# Altium schematic symbol library IC Digital.SchLib: 47 symbols
Pins are listed as number, name and electrical type; pins without a type are passive.

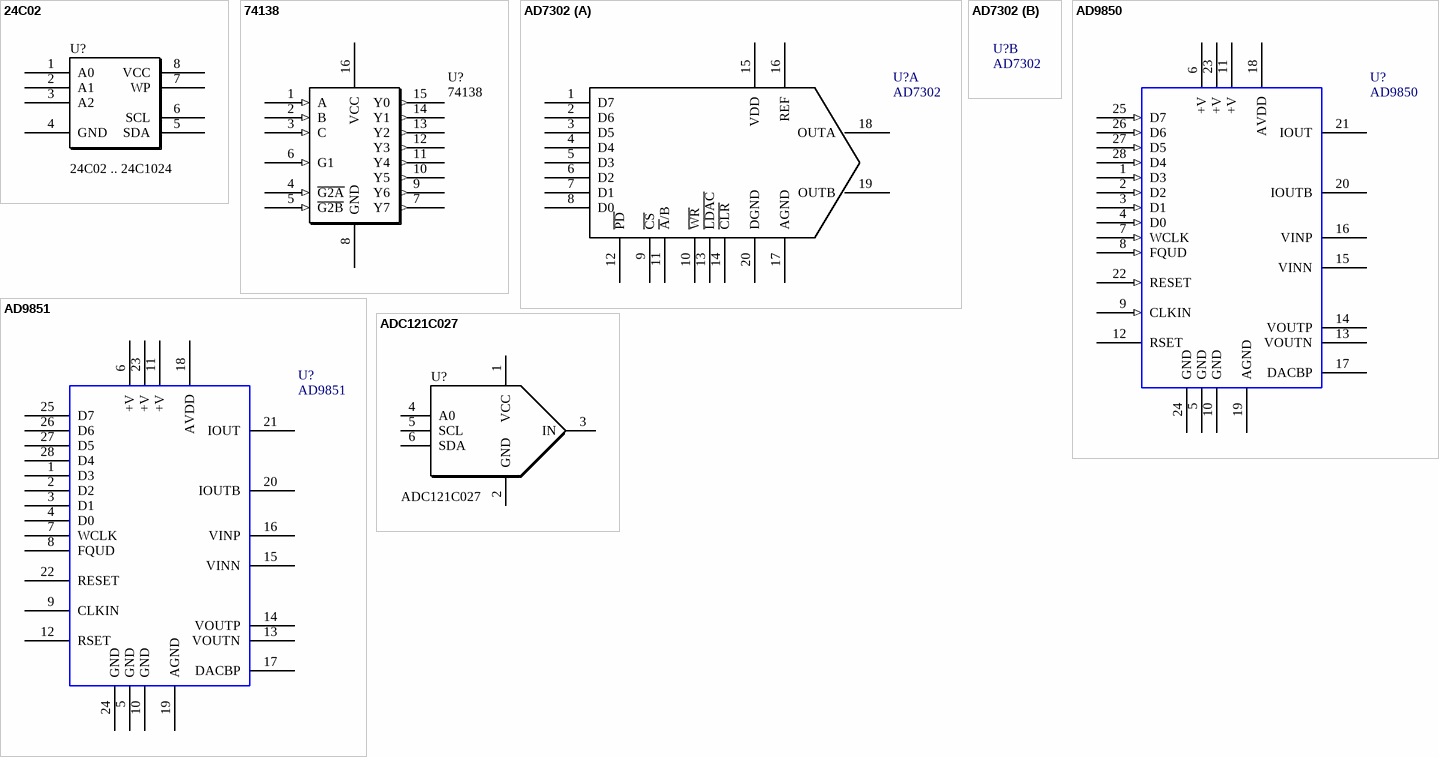
[diagram p0: symbols 24C02 to ADC121C027]

## 24C02
designator U?, comment 24C02 .. 24C1024
footprint SO8
pins: 1 A0, 2 A1, 3 A2, 4 GND, 5 SDA, 6 SCL, 7 WP, 8 VCC

## 74138
designator U?
3-Line to 8-Line Decoders/Demultiplexers
footprint SO16W
footprint SO16
pins: 1 A (in), 2 B (in), 3 C (in), 4 ~{G2A} (in), 5 ~{G2B} (in), 6 G1 (in), 7 Y7 (out), 8 GND (power), 9 Y6 (out), 10 Y5 (out), 11 Y4 (out), 12 Y3 (out), 13 Y2 (out), 14 Y1 (out), 15 Y0 (out), 16 VCC (power)

## AD7302
designator U?
DUAL 8 BIT DAC; Manufacturer: Analog Devices Inc; Manufacturer Part Number: AD7302BRZ; Voltage Supply Source: Single Supply; Power Dissipation (Max): 24.8mW; Number of Converters: 2; Number of Outputs and Type: 2 Voltage, Unipolar; 2 Voltage, Bipolar; Description: IC DAC 8BIT DUAL R-R 20-SOIC; Settling Time: 1.2µs; Data Interface: Parallel; Number of Bits: 8; Supplier 1: Digi-Key; Supplier Part Number 1: AD7302BRZ-ND; Operating Temperature: -40°C ~ 105°C; Category: Integrated Circuits (ICs); Supplier: Digi-Key; Supplier Part Number: AD7302BRZ-ND; RoHS: RoHS Compliant; Package / Case: 20-SOIC (7.5mm Width); Packaging: Tube
footprint SO20
part A pins: 1 D7, 2 D6, 3 D5, 4 D4, 5 D3, 6 D2, 7 D1, 8 D0, 9 ~{CS}, 10 ~{WR}, 11 ~{A}/B, 12 ~{PD}, 13 ~{LDAC}, 14 ~{CLR}, 15 VDD, 16 REF, 17 AGND, 18 OUTA, 19 OUTB, 20 DGND

## AD9850
designator U?
180 MHz DDS SYNTHESIZER; Manufacturer: Analog Devices Inc; Manufacturer Part Number: AD9850BRSZ; Description: IC DDS SYNTHESIZER CMOS 28-SSOP; Voltage - Supply: 3.3V, 5V; Tuning Word Width (Bits): 32 b; Resolution (Bits): 10 b; Master fclk: 125MHz; Supplier 1: Digi-Key; Supplier Part Number 1: AD9850BRSZ-ND; Package / Case: 28-SSOP; RoHS: RoHS Compliant; Packaging: Tube; Supplier Part Number: AD9850BRSZ-ND; Category: Integrated Circuits (ICs); Supplier: Digi-Key; Operating Temperature: -40°C ~ 85°C
footprint TSSOP28
pins: 1 D3 (in), 2 D2 (in), 3 D1 (in), 4 D0 (in), 5 GND (power), 6 +V (power), 7 WCLK (in), 8 FQUD (in), 9 CLKIN (in), 10 GND (power), 11 +V (power), 12 RSET, 13 VOUTN, 14 VOUTP, 15 VINN, 16 VINP, 17 DACBP, 18 AVDD (power), 19 AGND (power), 20 IOUTB, 21 IOUT, 22 RESET (in), 23 +V (power), 24 GND (power), 25 D7 (in), 26 D6 (in), 27 D5 (in), 28 D4 (in)

## AD9851
designator U?
180 MHz DDS SYNTHESIZER; Manufacturer: Analog Devices Inc; Manufacturer Part Number: AD9851BRS; Description: IC DDS DAC W/COMP 180MHZ 28-SSOP; Tuning Word Width (Bits): 32 b; Resolution (Bits): 10 b; Voltage - Supply: 2.7 V ~ 5.25 V; Master fclk: 180MHz; Supplier 1: Digi-Key; Supplier Part Number 1: AD9851BRS-ND; Packaging: Tube; Supplier Part Number: AD9851BRS-ND; Package / Case: 28-SSOP; RoHS: RoHS non-compliant; Supplier: Digi-Key; Operating Temperature: -40°C ~ 85°C; Category: Integrated Circuits (ICs)
footprint TSSOP28
pins: 1 D3, 2 D2, 3 D1, 4 D0, 5 GND, 6 +V, 7 WCLK, 8 FQUD, 9 CLKIN, 10 GND, 11 +V, 12 RSET, 13 VOUTN, 14 VOUTP, 15 VINN, 16 VINP, 17 DACBP, 18 AVDD, 19 AGND, 20 IOUTB, 21 IOUT, 22 RESET, 23 +V, 24 GND, 25 D7, 26 D6, 27 D5, 28 D4

## ADC121C027
designator U?
12 BIT ADC WITH I2C INTERFACE
footprint SOT23-6
pins: 1 VCC, 2 GND, 3 IN, 4 A0, 5 SCL, 6 SDA

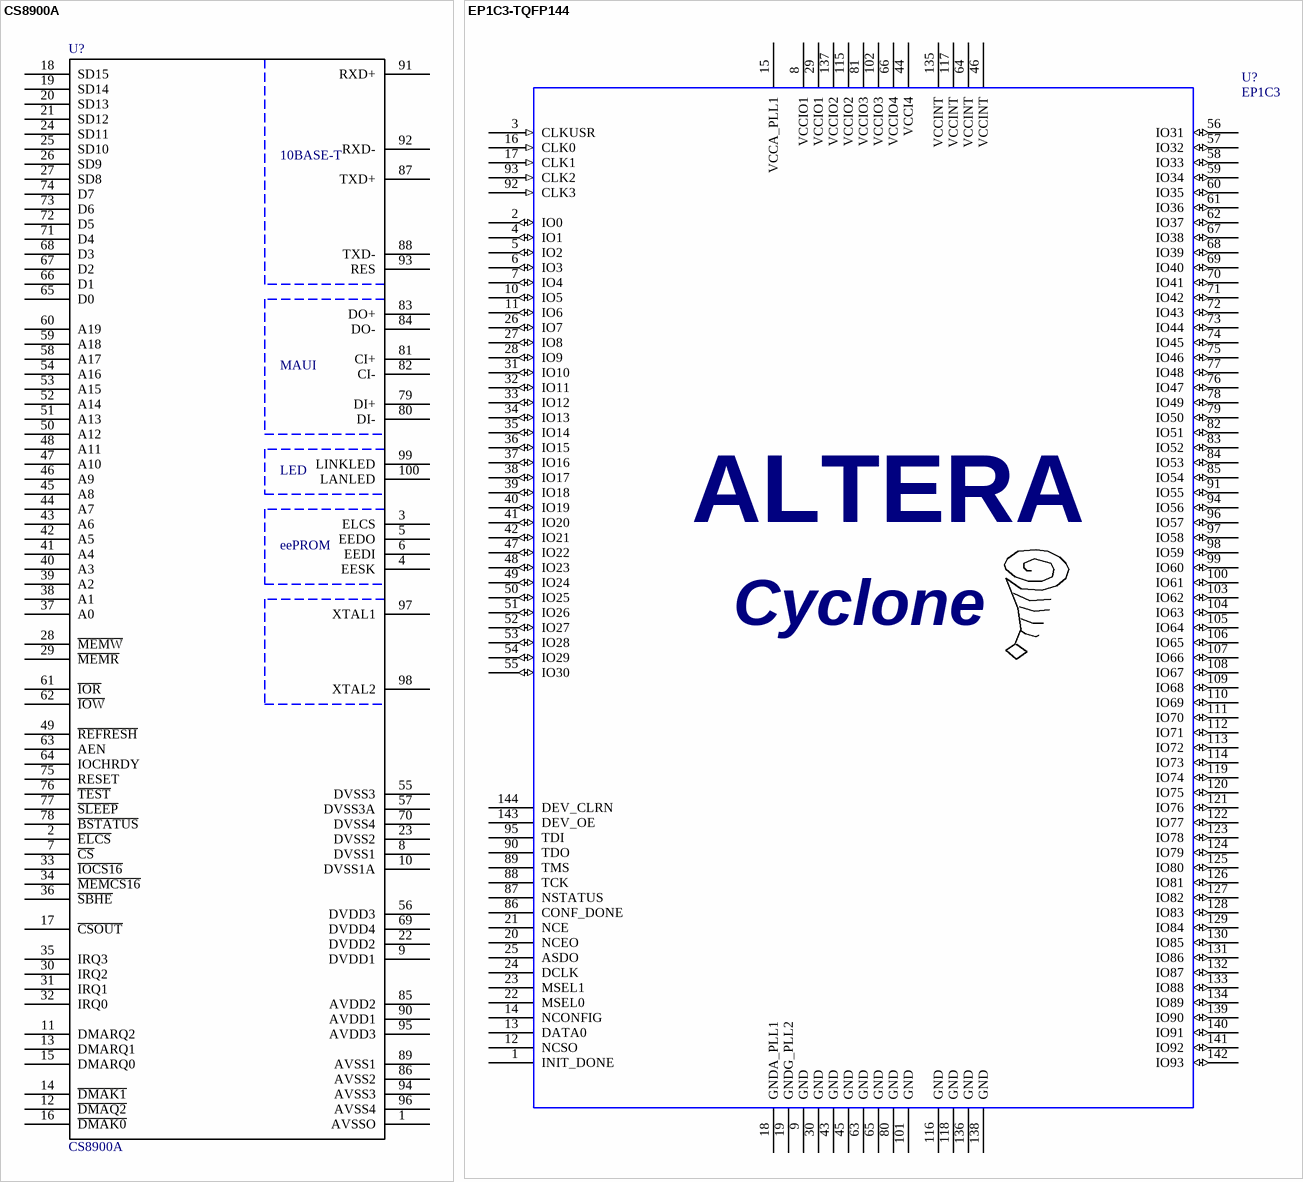
[diagram p1: symbols CS8900A to EP1C3-TQFP144]

## CS8900A
designator U?
ETHERNET MAC + PHY; Manufacturer Part Number: CS8900A-CQZ; Manufacturer: Cirrus Logic Inc; Controller Type: Ethernet Controller (IEEE 802.3); Interface: ISA-BUS; Description: IC LAN ETHERNET CTLR 5V 100LQFP; Voltage - Supply: 3V, 5V; Current - Supply: 95mA; Supplier 1: Digi-Key; Supplier Part Number 1: 598-1128-ND; Operating Temperature: 0°C ~ 70°C; Supplier: Digi-Key; Category: Integrated Circuits (ICs); Packaging: Tube; Package / Case: 100-LQFP; RoHS: RoHS Compliant; Supplier Part Number: 598-1128-ND
footprint tqfp100
pins: 1 AVSSO, 2 ~{ELCS}, 3 ELCS, 4 EESK, 5 EEDO, 6 EEDI, 7 ~{CS}, 8 DVSS1, 9 DVDD1, 10 DVSS1A, 11 DMARQ2, 12 ~{DMAQ2}, 13 DMARQ1, 14 ~{DMAK1}, 15 DMARQ0, 16 ~{DMAK0}, 17 ~{CSOUT}, 18 SD15, 19 SD14, 20 SD13, 21 SD12, 22 DVDD2, 23 DVSS2, 24 SD11, 25 SD10, 26 SD9, 27 SD8, 28 ~{MEMW}, 29 ~{MEMR}, 30 IRQ2, 31 IRQ1, 32 IRQ0, 33 ~{IOCS16}, 34 ~{MEMCS16}, 35 IRQ3, 36 ~{SBHE}, 37 A0, 38 A1, 39 A2, 40 A3, 41 A4, 42 A5, 43 A6, 44 A7, 45 A8, 46 A9, 47 A10, 48 A11, 49 ~{REFRESH}, 50 A12, 51 A13, 52 A14, 53 A15, 54 A16, 55 DVSS3, 56 DVDD3, 57 DVSS3A, 58 A17, 59 A18, 60 A19, 61 ~{IOR}, 62 ~{IOW}, 63 AEN, 64 IOCHRDY, 65 D0, 66 D1, 67 D2, 68 D3, 69 DVDD4, 70 DVSS4, 71 D4, 72 D5, 73 D6, 74 D7, 75 RESET, 76 ~{TEST}, 77 ~{SLEEP}, 78 ~{BSTATUS}, 79 DI+, 80 DI-, 81 CI+, 82 CI-, 83 DO+, 84 DO-, 85 AVDD2, 86 AVSS2, 87 TXD+, 88 TXD-, 89 AVSS1, 90 AVDD1, 91 RXD+, 92 RXD-, 93 RES, 94 AVSS3, 95 AVDD3, 96 AVSS4, 97 XTAL1, 98 XTAL2, 99 LINKLED, 100 LANLED
text: 10BASE-T; MAUI; LED; eePROM

## EP1C3-TQFP144
designator U?, comment EP1C3
ALTERA CYCLONE EP1C3 144 TQFP; Manufacturer Part Number: EP1C3T144C6N; Number of Registers: 2910; Description: IC CYCLONE FPGA 2910 LE 144-TQFP; Number of I /O: 104; Voltage - Supply: 1.4 V ~ 3.6 V; Supplier 1: Digi-Key; Supplier Part Number 1: 544-1662-ND; Operating Temperature: 0°C ~ 85°C; Supplier: Digi-Key; Package / Case: 144-TQFP, 144-VQFP; RoHS: RoHS Compliant; Supplier Part Number: 544-1662-ND; Delay Time: -; Number of Logic Blocks/Elements: 2910; Category: Integrated Circuits (ICs); Number of Gates: -; Manufacturer: Altera
footprint TQFP144
footprint tqfp144
pins: 1 INIT_DONE, 2 IO0 (io), 3 CLKUSR (in), 4 IO1 (io), 5 IO2 (io), 6 IO3 (io), 7 IO4 (io), 8 VCCIO1 (power), 9 GND (power), 10 IO5 (io), 11 IO6 (io), 12 NCSO, 13 DATA0, 14 NCONFIG, 15 VCCA_PLL1 (power), 16 CLK0 (in), 17 CLK1 (in), 18 GNDA_PLL1 (power), 19 GNDG_PLL2 (power), 20 NCEO, 21 NCE, 22 MSEL0, 23 MSEL1, 24 DCLK, 25 ASDO, 26 IO7 (io), 27 IO8 (io), 28 IO9 (io), 29 VCCIO1 (power), 30 GND (power), 31 IO10 (io), 32 IO11 (io), 33 IO12 (io), 34 IO13 (io), 35 IO14 (io), 36 IO15 (io), 37 IO16 (io), 38 IO17 (io), 39 IO18 (io), 40 IO19 (io), 41 IO20 (io), 42 IO21 (io), 43 GND (power), 44 VCCI4 (power), 45 GND (power), 46 VCCINT (power), 47 IO22 (io), 48 IO23 (io), 49 IO24 (io), 50 IO25 (io), 51 IO26 (io), 52 IO27 (io), 53 IO28 (io), 54 IO29 (io), 55 IO30 (io), 56 IO31 (io), 57 IO32 (io), 58 IO33 (io), 59 IO34 (io), 60 IO35 (io), 61 IO36 (io), 62 IO37 (io), 63 GND (power), 64 VCCINT (power), 65 GND (power), 66 VCCIO4 (power), 67 IO38 (io), 68 IO39 (io), 69 IO40 (io), 70 IO41 (io), 71 IO42 (io), 72 IO43 (io), 73 IO44 (io), 74 IO45 (io), 75 IO46 (io), 76 IO47 (io), 77 IO48 (io), 78 IO49 (io), 79 IO50 (io), 80 GND (power), 81 VCCIO3 (power), 82 IO51 (io), 83 IO52 (io), 84 IO53 (io), 85 IO54 (io), 86 CONF_DONE, 87 NSTATUS, 88 TCK, 89 TMS, 90 TDO, 91 IO55 (io), 92 CLK3 (in), 93 CLK2 (in), 94 IO56 (io), 95 TDI, 96 IO57 (io), 97 IO58 (io), 98 IO59 (io), 99 IO60 (io), 100 IO61 (io), 101 GND (power), 102 VCCIO3 (power), 103 IO62 (io), 104 IO63 (io), 105 IO64 (io), 106 IO65 (io), 107 IO66 (io), 108 IO67 (io), 109 IO68 (io), 110 IO69 (io), 111 IO70 (io), 112 IO71 (io), 113 IO72 (io), 114 IO73 (io), 115 VCCIO2 (power), 116 GND (power), 117 VCCINT (power), 118 GND (power), 119 IO74 (io), 120 IO75 (io), 121 IO76 (io), 122 IO77 (io), 123 IO78 (io), 124 IO79 (io), 125 IO80 (io), 126 IO81 (io), 127 IO82 (io), 128 IO83 (io), 129 IO84 (io), 130 IO85 (io), 131 IO86 (io), 132 IO87 (io), 133 IO88 (io), 134 IO89 (io), 135 VCCINT (power), 136 GND (power), 137 VCCIO2 (power), 138 GND (power), 139 IO90 (io), 140 IO91 (io), 141 IO92 (io), 142 IO93 (io), 143 DEV_OE, 144 DEV_CLRN
text: ALTERA; Cyclone

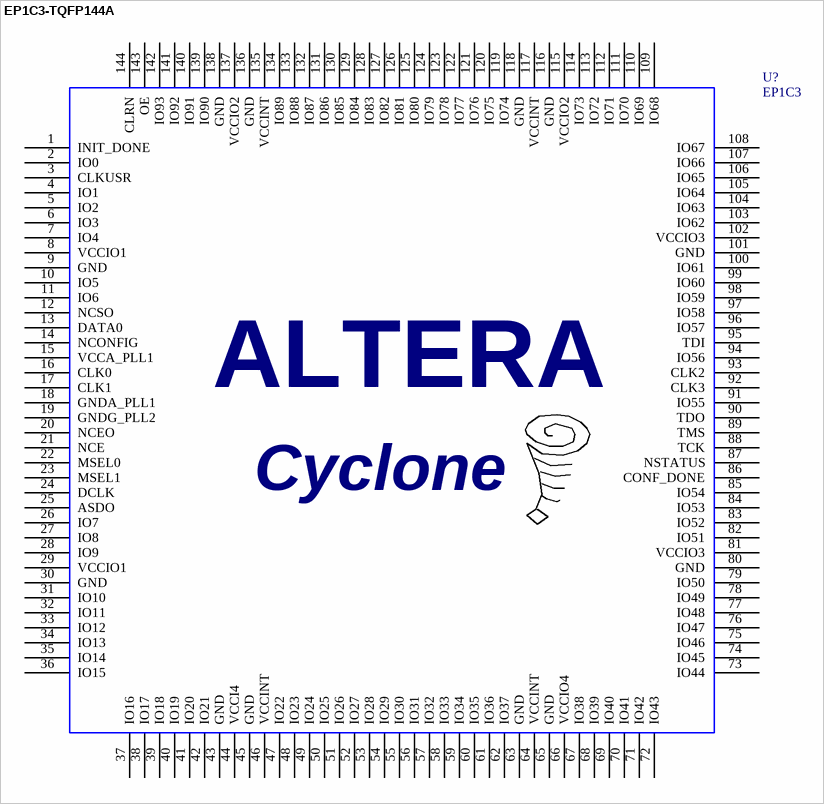
[diagram p2: symbol EP1C3-TQFP144A]

## EP1C3-TQFP144A
designator U?, comment EP1C3
ALTERA CYCLONE EP1C3 144 TQFP; Manufacturer Part Number: EP1C3T144C6N; Number of Registers: 2910; Description: IC CYCLONE FPGA 2910 LE 144-TQFP; Number of I /O: 104; Voltage - Supply: 1.4 V ~ 3.6 V; Supplier 1: Digi-Key; Supplier Part Number 1: 544-1662-ND; Operating Temperature: 0°C ~ 85°C; Supplier: Digi-Key; Package / Case: 144-TQFP, 144-VQFP; RoHS: RoHS Compliant; Supplier Part Number: 544-1662-ND; Delay Time: -; Number of Logic Blocks/Elements: 2910; Category: Integrated Circuits (ICs); Number of Gates: -; Manufacturer: Altera
footprint TQFP144
pins: 1 INIT_DONE, 2 IO0, 3 CLKUSR, 4 IO1, 5 IO2, 6 IO3, 7 IO4, 8 VCCIO1, 9 GND, 10 IO5, 11 IO6, 12 NCSO, 13 DATA0, 14 NCONFIG, 15 VCCA_PLL1, 16 CLK0, 17 CLK1, 18 GNDA_PLL1, 19 GNDG_PLL2, 20 NCEO, 21 NCE, 22 MSEL0, 23 MSEL1, 24 DCLK, 25 ASDO, 26 IO7, 27 IO8, 28 IO9, 29 VCCIO1, 30 GND, 31 IO10, 32 IO11, 33 IO12, 34 IO13, 35 IO14, 36 IO15, 37 IO16, 38 IO17, 39 IO18, 40 IO19, 41 IO20, 42 IO21, 43 GND, 44 VCCI4, 45 GND, 46 VCCINT, 47 IO22, 48 IO23, 49 IO24, 50 IO25, 51 IO26, 52 IO27, 53 IO28, 54 IO29, 55 IO30, 56 IO31, 57 IO32, 58 IO33, 59 IO34, 60 IO35, 61 IO36, 62 IO37, 63 GND, 64 VCCINT, 65 GND, 66 VCCIO4, 67 IO38, 68 IO39, 69 IO40, 70 IO41, 71 IO42, 72 IO43, 73 IO44, 74 IO45, 75 IO46, 76 IO47, 77 IO48, 78 IO49, 79 IO50, 80 GND, 81 VCCIO3, 82 IO51, 83 IO52, 84 IO53, 85 IO54, 86 CONF_DONE, 87 NSTATUS, 88 TCK, 89 TMS, 90 TDO, 91 IO55, 92 CLK3, 93 CLK2, 94 IO56, 95 TDI, 96 IO57, 97 IO58, 98 IO59, 99 IO60, 100 IO61, 101 GND, 102 VCCIO3, 103 IO62, 104 IO63, 105 IO64, 106 IO65, 107 IO66, 108 IO67, 109 IO68, 110 IO69, 111 IO70, 112 IO71, 113 IO72, 114 IO73, 115 VCCIO2, 116 GND, 117 VCCINT, 118 GND, 119 IO74, 120 IO75, 121 IO76, 122 IO77, 123 IO78, 124 IO79, 125 IO80, 126 IO81, 127 IO82, 128 IO83, 129 IO84, 130 IO85, 131 IO86, 132 IO87, 133 IO88, 134 IO89, 135 VCCINT, 136 GND, 137 VCCIO2, 138 GND, 139 IO90, 140 IO91, 141 IO92, 142 IO93, 143 OE, 144 CLRN
text: ALTERA; Cyclone

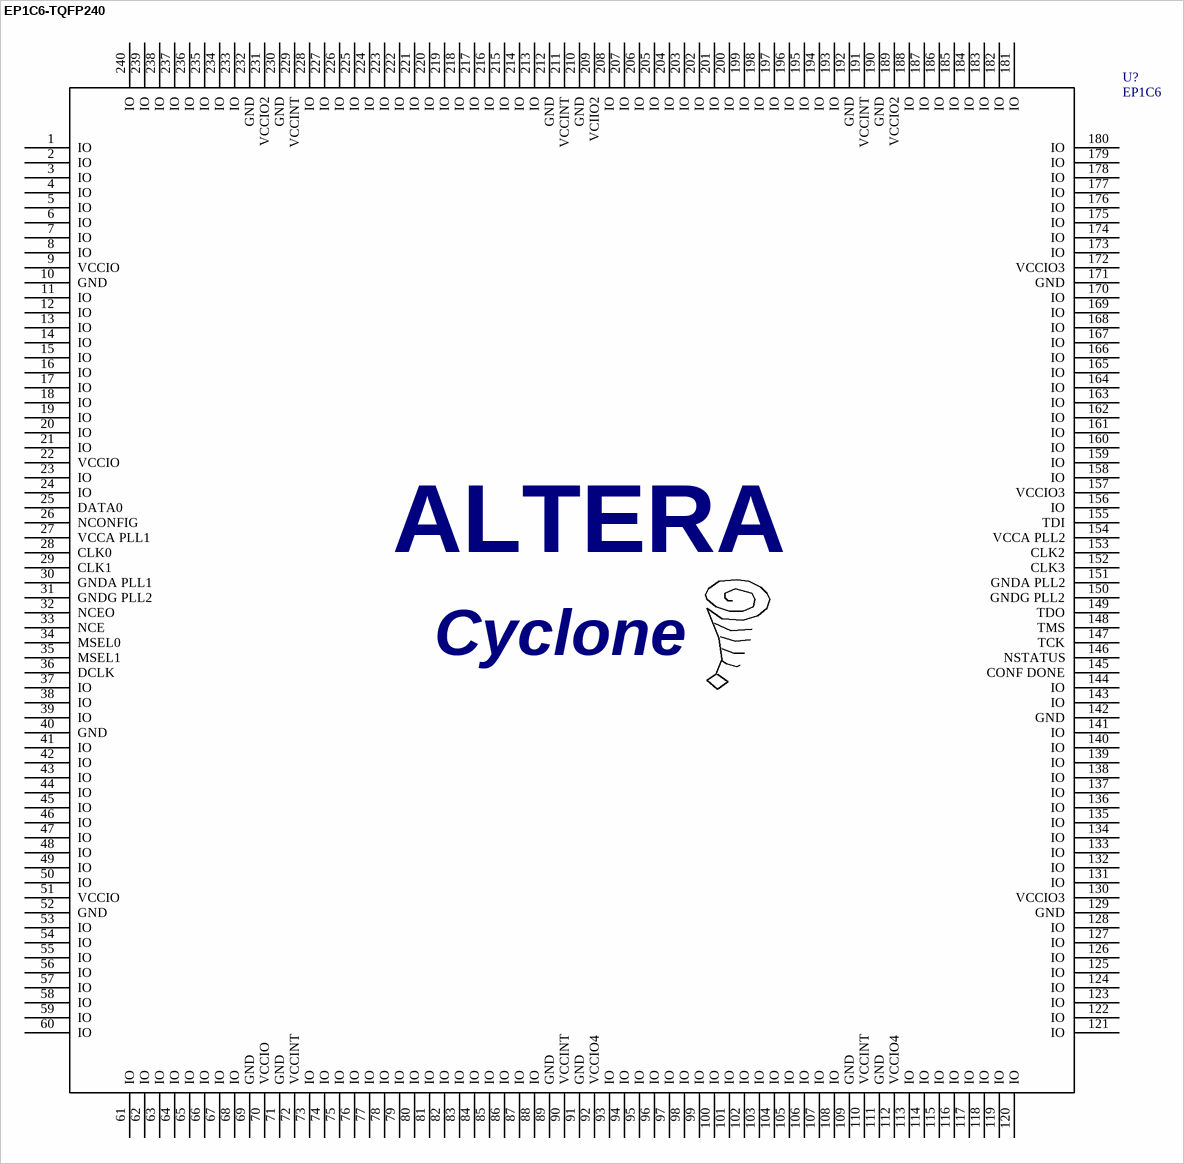
[diagram p3: symbol EP1C6-TQFP240]

## EP1C6-TQFP240
designator U?, comment EP1C6
ALTERA CYCLONE EP1C6 QFP 240; Manufacturer Part Number: EP1C6Q240I7; Description: IC CYCLONE FPGA 5980 LE 240-PQFP; Number of Logic Blocks/Elements: 5980; Number of I /O: 185; Voltage - Supply: 1.4 V ~ 3.6 V; Supplier 1: Digi-Key; Supplier Part Number 1: 544-1086-ND; Package / Case: 240-MQFP, 240-PQFP; Category: Integrated Circuits (ICs); Supplier: Digi-Key; Manufacturer: Altera; Operating Temperature: -40°C ~ 100°C; Number of Registers: 5980; Supplier Part Number: 544-1086-ND; Delay Time: -; Number of Gates: -; RoHS: RoHS non-compliant
footprint QFP240
pins: 1 IO, 2 IO, 3 IO, 4 IO, 5 IO, 6 IO, 7 IO, 8 IO, 9 VCCIO, 10 GND, 11 IO, 12 IO, 13 IO, 14 IO, 15 IO, 16 IO, 17 IO, 18 IO, 19 IO, 20 IO, 21 IO, 22 VCCIO, 23 IO, 24 IO, 25 DATA0, 26 NCONFIG, 27 VCCA PLL1, 28 CLK0, 29 CLK1, 30 GNDA PLL1, 31 GNDG PLL2, 32 NCEO, 33 NCE, 34 MSEL0, 35 MSEL1, 36 DCLK, 37 IO, 38 IO, 39 IO, 40 GND, 41 IO, 42 IO, 43 IO, 44 IO, 45 IO, 46 IO, 47 IO, 48 IO, 49 IO, 50 IO, 51 VCCIO, 52 GND, 53 IO, 54 IO, 55 IO, 56 IO, 57 IO, 58 IO, 59 IO, 60 IO, 61 IO, 62 IO, 63 IO, 64 IO, 65 IO, 66 IO, 67 IO, 68 IO, 69 GND, 70 VCCIO, 71 GND, 72 VCCINT, 73 IO, 74 IO, 75 IO, 76 IO, 77 IO, 78 IO, 79 IO, 80 IO, 81 IO, 82 IO, 83 IO, 84 IO, 85 IO, 86 IO, 87 IO, 88 IO, 89 GND, 90 VCCINT, 91 GND, 92 VCCIO4, 93 IO, 94 IO, 95 IO, 96 IO, 97 IO, 98 IO, 99 IO, 100 IO, 101 IO, 102 IO, 103 IO, 104 IO, 105 IO, 106 IO, 107 IO, 108 IO, 109 GND, 110 VCCINT, 111 GND, 112 VCCIO4, 113 IO, 114 IO, 115 IO, 116 IO, 117 IO, 118 IO, 119 IO, 120 IO, 121 IO, 122 IO, 123 IO, 124 IO, 125 IO, 126 IO, 127 IO, 128 IO, 129 GND, 130 VCCIO3, 131 IO, 132 IO, 133 IO, 134 IO, 135 IO, 136 IO, 137 IO, 138 IO, 139 IO, 140 IO, 141 IO, 142 GND, 143 IO, 144 IO, 145 CONF DONE, 146 NSTATUS, 147 TCK, 148 TMS, 149 TDO, 150 GNDG PLL2, 151 GNDA PLL2, 152 CLK3, 153 CLK2, 154 VCCA PLL2, 155 TDI, 156 IO, 157 VCCIO3, 158 IO, 159 IO, 160 IO, 161 IO, 162 IO, 163 IO, 164 IO, 165 IO, 166 IO, 167 IO, 168 IO, 169 IO, 170 IO, 171 GND, 172 VCCIO3, 173 IO, 174 IO, 175 IO, 176 IO, 177 IO, 178 IO, 179 IO, 180 IO, 181 IO, 182 IO, 183 IO, 184 IO, 185 IO, 186 IO, 187 IO, 188 IO, 189 VCCIO2, 190 GND, 191 VCCINT, 192 GND, 193 IO, 194 IO, 195 IO, 196 IO, 197 IO, 198 IO, 199 IO, 200 IO, 201 IO, 202 IO, 203 IO, 204 IO, 205 IO, 206 IO, 207 IO, 208 IO, 209 VCIIO2, 210 GND, 211 VCCINT, 212 GND, 213 IO, 214 IO, 215 IO, 216 IO, 217 IO, 218 IO, 219 IO, 220 IO, 221 IO, 222 IO, 223 IO, 224 IO, 225 IO, 226 IO, 227 IO, 228 IO, 229 VCCINT, 230 GND, 231 VCCIO2, 232 GND, 233 IO, 234 IO, 235 IO, 236 IO, 237 IO, 238 IO, 239 IO, 240 IO
text: ALTERA; Cyclone

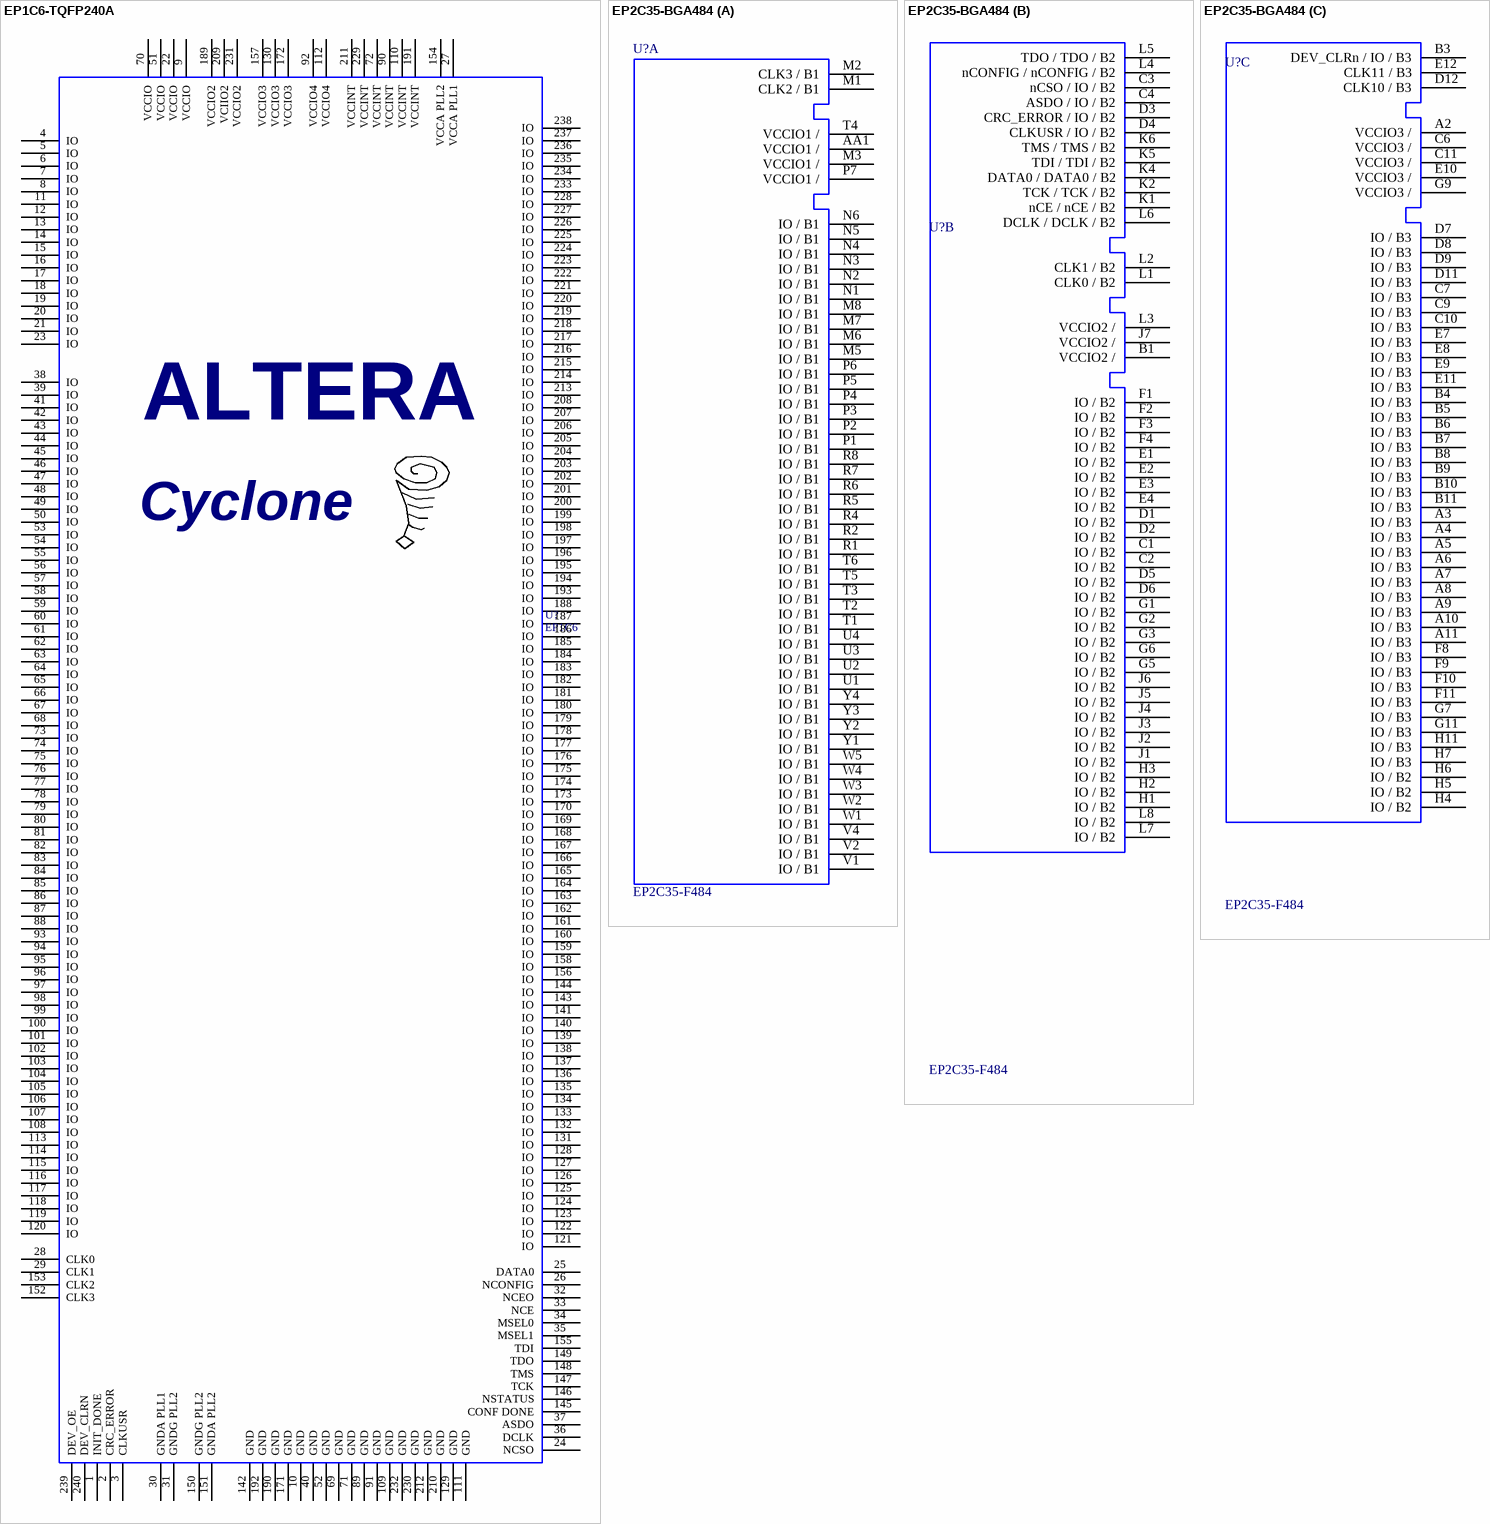
[diagram p4: symbols EP1C6-TQFP240A to EP2C35-BGA484]

## EP1C6-TQFP240A
designator U?, comment EP1C6
ALTERA CYCLONE EP1C6 QFP 240; Manufacturer Part Number: EP1C6Q240I7; Description: IC CYCLONE FPGA 5980 LE 240-PQFP; Number of Logic Blocks/Elements: 5980; Number of I /O: 185; Voltage - Supply: 1.4 V ~ 3.6 V; Supplier 1: Digi-Key; Supplier Part Number 1: 544-1086-ND; Package / Case: 240-MQFP, 240-PQFP; Category: Integrated Circuits (ICs); Supplier: Digi-Key; Manufacturer: Altera; Operating Temperature: -40°C ~ 100°C; Number of Registers: 5980; Supplier Part Number: 544-1086-ND; Delay Time: -; Number of Gates: -; RoHS: RoHS non-compliant
footprint QFP240
pins: 1 INIT_DONE, 2 CRC_ERROR, 3 CLKUSR, 4 IO, 5 IO, 6 IO, 7 IO, 8 IO, 9 VCCIO, 10 GND, 11 IO, 12 IO, 13 IO, 14 IO, 15 IO, 16 IO, 17 IO, 18 IO, 19 IO, 20 IO, 21 IO, 22 VCCIO, 23 IO, 24 NCSO, 25 DATA0, 26 NCONFIG, 27 VCCA PLL1, 28 CLK0, 29 CLK1, 30 GNDA PLL1, 31 GNDG PLL2, 32 NCEO, 33 NCE, 34 MSEL0, 35 MSEL1, 36 DCLK, 37 ASDO, 38 IO, 39 IO, 40 GND, 41 IO, 42 IO, 43 IO, 44 IO, 45 IO, 46 IO, 47 IO, 48 IO, 49 IO, 50 IO, 51 VCCIO, 52 GND, 53 IO, 54 IO, 55 IO, 56 IO, 57 IO, 58 IO, 59 IO, 60 IO, 61 IO, 62 IO, 63 IO, 64 IO, 65 IO, 66 IO, 67 IO, 68 IO, 69 GND, 70 VCCIO, 71 GND, 72 VCCINT, 73 IO, 74 IO, 75 IO, 76 IO, 77 IO, 78 IO, 79 IO, 80 IO, 81 IO, 82 IO, 83 IO, 84 IO, 85 IO, 86 IO, 87 IO, 88 IO, 89 GND, 90 VCCINT, 91 GND, 92 VCCIO4, 93 IO, 94 IO, 95 IO, 96 IO, 97 IO, 98 IO, 99 IO, 100 IO, 101 IO, 102 IO, 103 IO, 104 IO, 105 IO, 106 IO, 107 IO, 108 IO, 109 GND, 110 VCCINT, 111 GND, 112 VCCIO4, 113 IO, 114 IO, 115 IO, 116 IO, 117 IO, 118 IO, 119 IO, 120 IO, 121 IO, 122 IO, 123 IO, 124 IO, 125 IO, 126 IO, 127 IO, 128 IO, 129 GND, 130 VCCIO3, 131 IO, 132 IO, 133 IO, 134 IO, 135 IO, 136 IO, 137 IO, 138 IO, 139 IO, 140 IO, 141 IO, 142 GND, 143 IO, 144 IO, 145 CONF DONE, 146 NSTATUS, 147 TCK, 148 TMS, 149 TDO, 150 GNDG PLL2, 151 GNDA PLL2, 152 CLK3, 153 CLK2, 154 VCCA PLL2, 155 TDI, 156 IO, 157 VCCIO3, 158 IO, 159 IO, 160 IO, 161 IO, 162 IO, 163 IO, 164 IO, 165 IO, 166 IO, 167 IO, 168 IO, 169 IO, 170 IO, 171 GND, 172 VCCIO3, 173 IO, 174 IO, 175 IO, 176 IO, 177 IO, 178 IO, 179 IO, 180 IO, 181 IO, 182 IO, 183 IO, 184 IO, 185 IO, 186 IO, 187 IO, 188 IO, 189 VCCIO2, 190 GND, 191 VCCINT, 192 GND, 193 IO, 194 IO, 195 IO, 196 IO, 197 IO, 198 IO, 199 IO, 200 IO, 201 IO, 202 IO, 203 IO, 204 IO, 205 IO, 206 IO, 207 IO, 208 IO, 209 VCIIO2, 210 GND, 211 VCCINT, 212 GND, 213 IO, 214 IO, 215 IO, 216 IO, 217 IO, 218 IO, 219 IO, 220 IO, 221 IO, 222 IO, 223 IO, 224 IO, 225 IO, 226 IO, 227 IO, 228 IO, 229 VCCINT, 230 GND, 231 VCCIO2, 232 GND, 233 IO, 234 IO, 235 IO, 236 IO, 237 IO, 238 IO, 239 DEV_OE, 240 DEV_CLRN
text: ALTERA; Cyclone

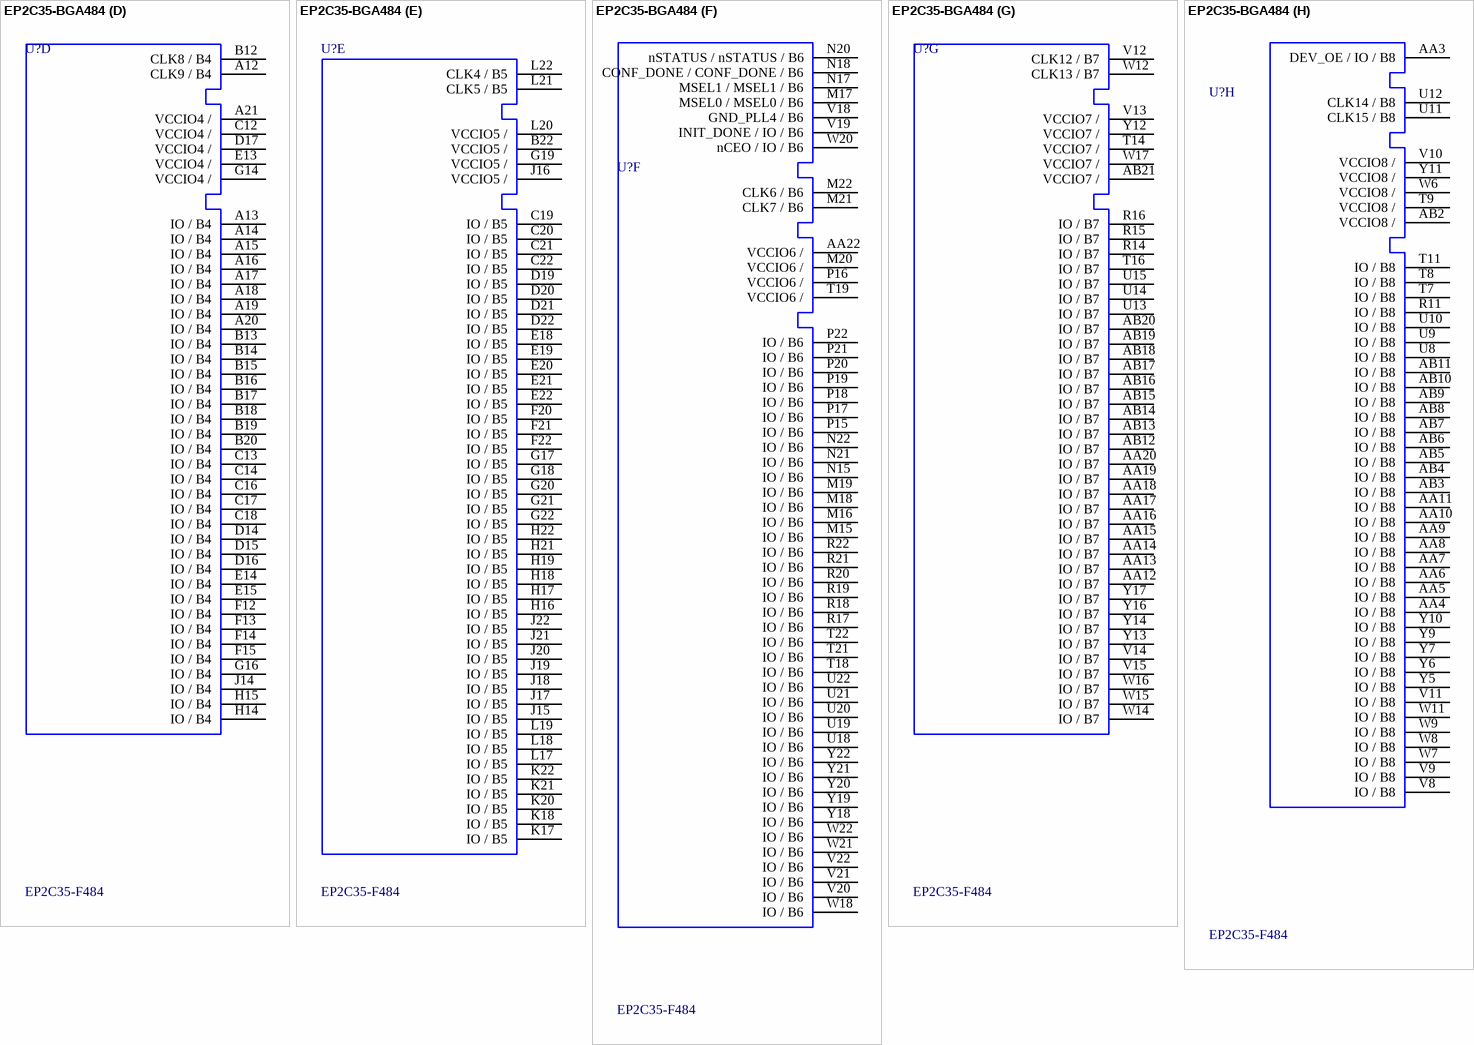
[diagram p5: symbol EP2C35-BGA484]

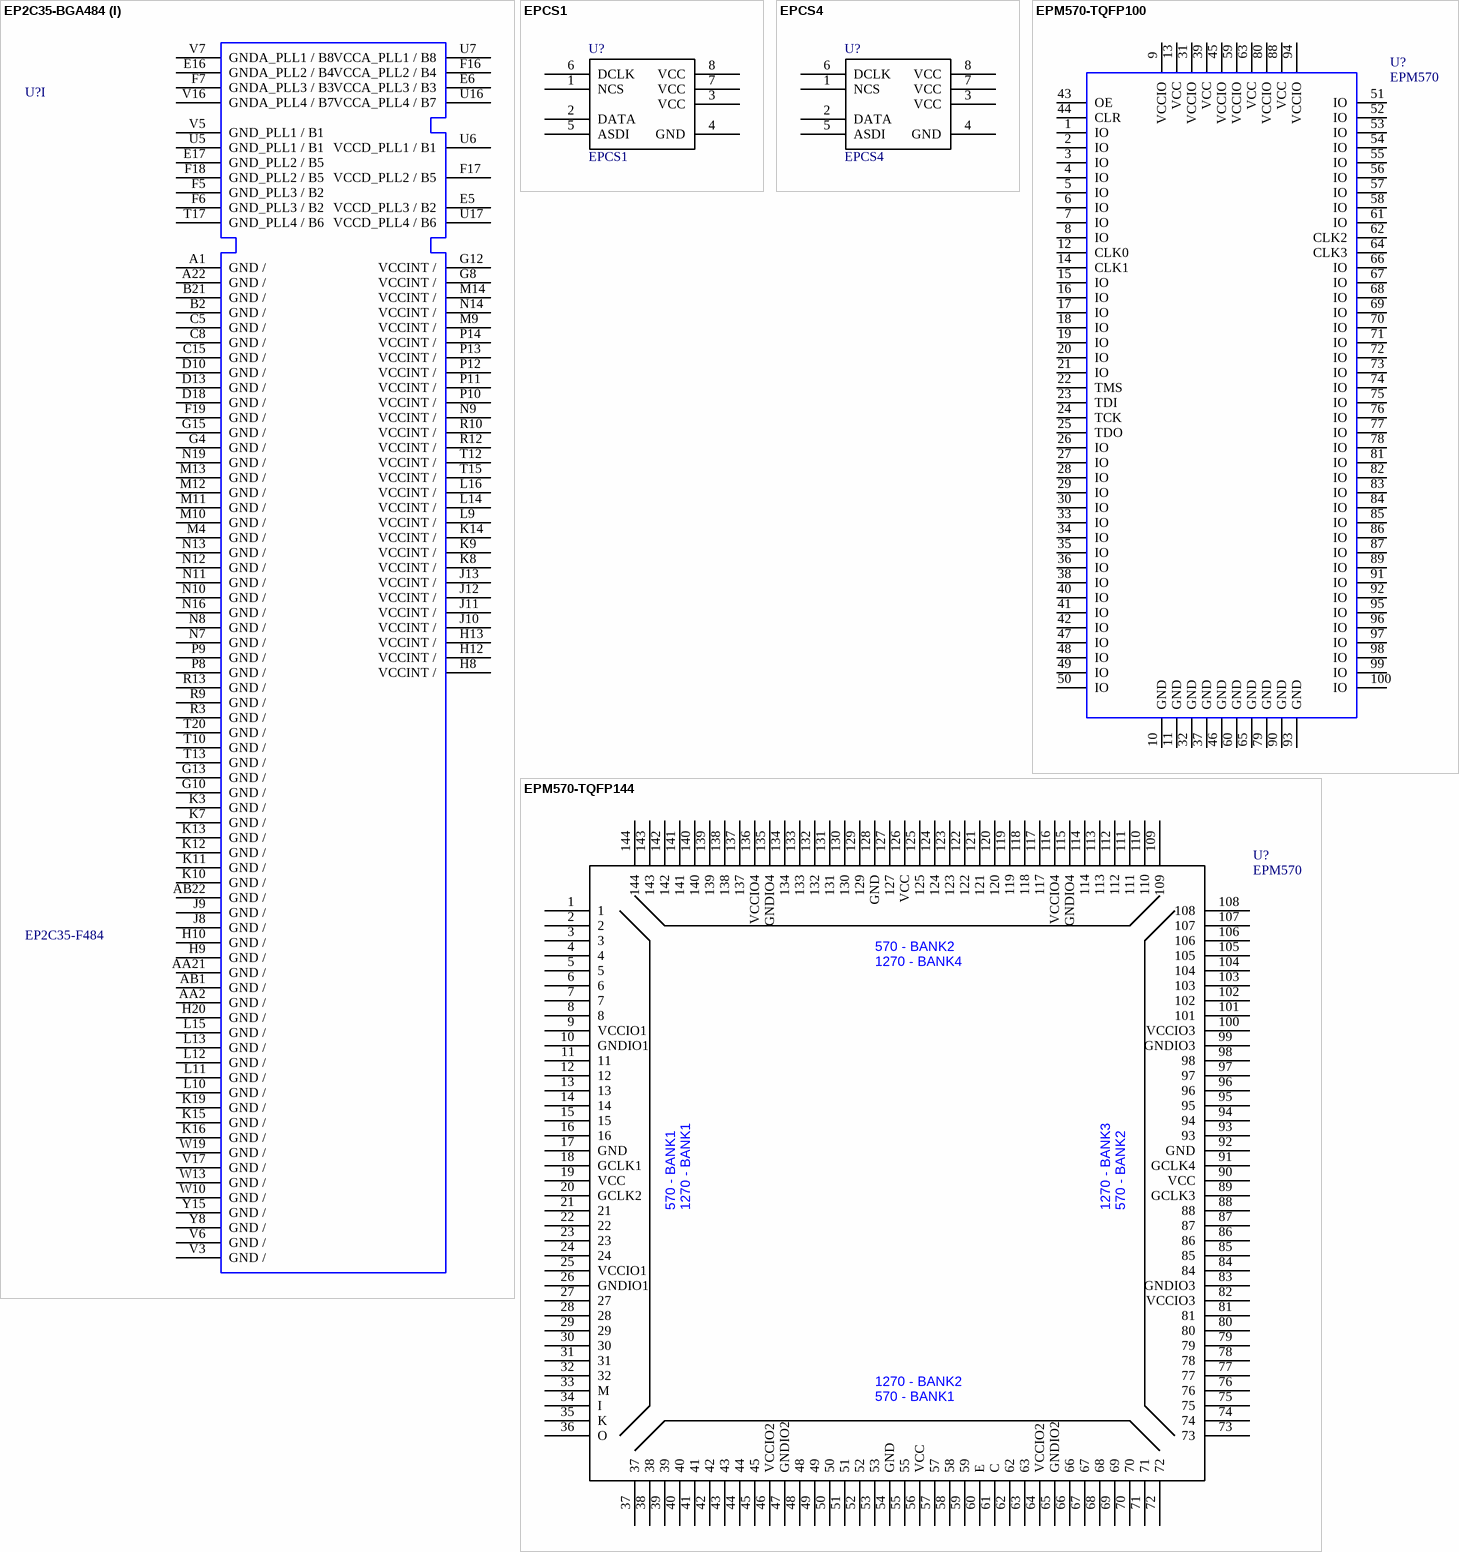
[diagram p6: symbols EP2C35-BGA484 to EPM570-TQFP144]

## EP2C35-BGA484
designator U?, comment EP2C35-F484
ALTERA 2C35 FPGA BGA484 PACKAGE; Manufacturer Part Number: EP2C35F484C8N; Number of I /O: 322; Description: IC CYCLONE II FPGA 35K 484-FBGA; Number of Logic Blocks/Elements: 33216; Voltage - Supply: 1.15 V ~ 3.465 V; Supplier 1: Digi-Key; Supplier Part Number 1: 544-1366-ND; RoHS: RoHS Compliant; Number of Registers: -; Package / Case: 484-FBGA; Number of Gates: -; Category: Integrated Circuits (ICs); Supplier: Digi-Key; Delay Time: -; Operating Temperature: 0°C ~ 85°C; Manufacturer: Altera; Supplier Part Number: 544-1366-ND
footprint BGA484
part A pins: AA1 VCCIO1 /, M1 CLK2 / B1, M2 CLK3 / B1, M3 VCCIO1 /, M5 IO / B1, M6 IO / B1, M7 IO / B1, M8 IO / B1, N1 IO / B1, N2 IO / B1, N3 IO / B1, N4 IO / B1, N5 IO / B1, N6 IO / B1, P1 IO / B1, P2 IO / B1, P3 IO / B1, P4 IO / B1, P5 IO / B1, P6 IO / B1, P7 VCCIO1 /, R1 IO / B1, R2 IO / B1, R4 IO / B1, R5 IO / B1, R6 IO / B1, R7 IO / B1, R8 IO / B1, T1 IO / B1, T2 IO / B1, T3 IO / B1, T4 VCCIO1 /, T5 IO / B1, T6 IO / B1, U1 IO / B1, U2 IO / B1, U3 IO / B1, U4 IO / B1, V1 IO / B1, V2 IO / B1, V4 IO / B1, W1 IO / B1, W2 IO / B1, W3 IO / B1, W4 IO / B1, W5 IO / B1, Y1 IO / B1, Y2 IO / B1, Y3 IO / B1, Y4 IO / B1
part B pins: B1 VCCIO2 /, C1 IO / B2, C2 IO / B2, C3 nCSO / IO / B2, C4 ASDO / IO / B2, D1 IO / B2, D2 IO / B2, D3 CRC_ERROR / IO / B2, D4 CLKUSR / IO / B2, D5 IO / B2, D6 IO / B2, E1 IO / B2, E2 IO / B2, E3 IO / B2, E4 IO / B2, F1 IO / B2, F2 IO / B2, F3 IO / B2, F4 IO / B2, G1 IO / B2, G2 IO / B2, G3 IO / B2, G5 IO / B2, G6 IO / B2, H1 IO / B2, H2 IO / B2, H3 IO / B2, J1 IO / B2, J2 IO / B2, J3 IO / B2, J4 IO / B2, J5 IO / B2, J6 IO / B2, J7 VCCIO2 /, K1 nCE / nCE / B2, K2 TCK / TCK / B2, K4 DATA0 / DATA0 / B2, K5 TDI / TDI / B2, K6 TMS / TMS / B2, L1 CLK0 / B2, L2 CLK1 / B2, L3 VCCIO2 /, L4 nCONFIG / nCONFIG / B2, L5 TDO / TDO / B2, L6 DCLK / DCLK / B2, L7 IO / B2, L8 IO / B2
part C pins: A2 VCCIO3 /, A3 IO / B3, A4 IO / B3, A5 IO / B3, A6 IO / B3, A7 IO / B3, A8 IO / B3, A9 IO / B3, A10 IO / B3, A11 IO / B3, B3 DEV_CLRn / IO / B3, B4 IO / B3, B5 IO / B3, B6 IO / B3, B7 IO / B3, B8 IO / B3, B9 IO / B3, B10 IO / B3, B11 IO / B3, C6 VCCIO3 /, C7 IO / B3, C9 IO / B3, C10 IO / B3, C11 VCCIO3 /, D7 IO / B3, D8 IO / B3, D9 IO / B3, D11 IO / B3, D12 CLK10 / B3, E7 IO / B3, E8 IO / B3, E9 IO / B3, E10 VCCIO3 /, E11 IO / B3, E12 CLK11 / B3, F8 IO / B3, F9 IO / B3, F10 IO / B3, F11 IO / B3, G7 IO / B3, G9 VCCIO3 /, G11 IO / B3, H4 IO / B2, H5 IO / B2, H6 IO / B2, H7 IO / B3, H11 IO / B3
part D pins: A12 CLK9 / B4, A13 IO / B4, A14 IO / B4, A15 IO / B4, A16 IO / B4, A17 IO / B4, A18 IO / B4, A19 IO / B4, A20 IO / B4, A21 VCCIO4 /, B12 CLK8 / B4, B13 IO / B4, B14 IO / B4, B15 IO / B4, B16 IO / B4, B17 IO / B4, B18 IO / B4, B19 IO / B4, B20 IO / B4, C12 VCCIO4 /, C13 IO / B4, C14 IO / B4, C16 IO / B4, C17 IO / B4, C18 IO / B4, D14 IO / B4, D15 IO / B4, D16 IO / B4, D17 VCCIO4 /, E13 VCCIO4 /, E14 IO / B4, E15 IO / B4, F12 IO / B4, F13 IO / B4, F14 IO / B4, F15 IO / B4, G14 VCCIO4 /, G16 IO / B4, H14 IO / B4, H15 IO / B4, J14 IO / B4
part E pins: B22 VCCIO5 /, C19 IO / B5, C20 IO / B5, C21 IO / B5, C22 IO / B5, D19 IO / B5, D20 IO / B5, D21 IO / B5, D22 IO / B5, E18 IO / B5, E19 IO / B5, E20 IO / B5, E21 IO / B5, E22 IO / B5, F20 IO / B5, F21 IO / B5, F22 IO / B5, G17 IO / B5, G18 IO / B5, G19 VCCIO5 /, G20 IO / B5, G21 IO / B5, G22 IO / B5, H16 IO / B5, H17 IO / B5, H18 IO / B5, H19 IO / B5, H21 IO / B5, H22 IO / B5, J15 IO / B5, J16 VCCIO5 /, J17 IO / B5, J18 IO / B5, J19 IO / B5, J20 IO / B5, J21 IO / B5, J22 IO / B5, K17 IO / B5, K18 IO / B5, K20 IO / B5, K21 IO / B5, K22 IO / B5, L17 IO / B5, L18 IO / B5, L19 IO / B5, L20 VCCIO5 /, L21 CLK5 / B5, L22 CLK4 / B5
part F pins: AA22 VCCIO6 /, M15 IO / B6, M16 IO / B6, M17 MSEL0 / MSEL0 / B6, M18 IO / B6, M19 IO / B6, M20 VCCIO6 /, M21 CLK7 / B6, M22 CLK6 / B6, N15 IO / B6, N17 MSEL1 / MSEL1 / B6, N18 CONF_DONE / CONF_DONE / B6, N20 nSTATUS / nSTATUS / B6, N21 IO / B6, N22 IO / B6, P15 IO / B6, P16 VCCIO6 /, P17 IO / B6, P18 IO / B6, P19 IO / B6, P20 IO / B6, P21 IO / B6, P22 IO / B6, R17 IO / B6, R18 IO / B6, R19 IO / B6, R20 IO / B6, R21 IO / B6, R22 IO / B6, T18 IO / B6, T19 VCCIO6 /, T21 IO / B6, T22 IO / B6, U18 IO / B6, U19 IO / B6, U20 IO / B6, U21 IO / B6, U22 IO / B6, V18 GND_PLL4 / B6, V19 INIT_DONE / IO / B6, V20 IO / B6, V21 IO / B6, V22 IO / B6, W18 IO / B6, W20 nCEO / IO / B6, W21 IO / B6, W22 IO / B6, Y18 IO / B6, Y19 IO / B6, Y20 IO / B6, Y21 IO / B6, Y22 IO / B6
part G pins: AA12 IO / B7, AA13 IO / B7, AA14 IO / B7, AA15 IO / B7, AA16 IO / B7, AA17 IO / B7, AA18 IO / B7, AA19 IO / B7, AA20 IO / B7, AB12 IO / B7, AB13 IO / B7, AB14 IO / B7, AB15 IO / B7, AB16 IO / B7, AB17 IO / B7, AB18 IO / B7, AB19 IO / B7, AB20 IO / B7, AB21 VCCIO7 /, R14 IO / B7, R15 IO / B7, R16 IO / B7, T14 VCCIO7 /, T16 IO / B7, U13 IO / B7, U14 IO / B7, U15 IO / B7, V12 CLK12 / B7, V13 VCCIO7 /, V14 IO / B7, V15 IO / B7, W12 CLK13 / B7, W14 IO / B7, W15 IO / B7, W16 IO / B7, W17 VCCIO7 /, Y12 VCCIO7 /, Y13 IO / B7, Y14 IO / B7, Y16 IO / B7, Y17 IO / B7
part H pins: AA3 DEV_OE / IO / B8, AA4 IO / B8, AA5 IO / B8, AA6 IO / B8, AA7 IO / B8, AA8 IO / B8, AA9 IO / B8, AA10 IO / B8, AA11 IO / B8, AB2 VCCIO8 /, AB3 IO / B8, AB4 IO / B8, AB5 IO / B8, AB6 IO / B8, AB7 IO / B8, AB8 IO / B8, AB9 IO / B8, AB10 IO / B8, AB11 IO / B8, R11 IO / B8, T7 IO / B8, T8 IO / B8, T9 VCCIO8 /, T11 IO / B8, U8 IO / B8, U9 IO / B8, U10 IO / B8, U11 CLK15 / B8, U12 CLK14 / B8, V8 IO / B8, V9 IO / B8, V10 VCCIO8 /, V11 IO / B8, W6 VCCIO8 /, W7 IO / B8, W8 IO / B8, W9 IO / B8, W11 IO / B8, Y5 IO / B8, Y6 IO / B8, Y7 IO / B8, Y9 IO / B8, Y10 IO / B8, Y11 VCCIO8 /
part I pins: A1 GND /, A22 GND /, AA2 GND /, AA21 GND /, AB1 GND /, AB22 GND /, B2 GND /, B21 GND /, C5 GND /, C8 GND /, C15 GND /, D10 GND /, D13 GND /, D18 GND /, E5 VCCD_PLL3 / B2, E6 VCCA_PLL3 / B3, E16 GNDA_PLL2 / B4, E17 GND_PLL2 / B5, F5 GND_PLL3 / B2, F6 GND_PLL3 / B2, F7 GNDA_PLL3 / B3, F16 VCCA_PLL2 / B4, F17 VCCD_PLL2 / B5, F18 GND_PLL2 / B5, F19 GND /, G4 GND /, G8 VCCINT /, G10 GND /, G12 VCCINT /, G13 GND /, G15 GND /, H8 VCCINT /, H9 GND /, H10 GND /, H12 VCCINT /, H13 VCCINT /, H20 GND /, J8 GND /, J9 GND /, J10 VCCINT /, J11 VCCINT /, J12 VCCINT /, J13 VCCINT /, K3 GND /, K7 GND /, K8 VCCINT /, K9 VCCINT /, K10 GND /, K11 GND /, K12 GND /, K13 GND /, K14 VCCINT /, K15 GND /, K16 GND /, K19 GND /, L9 VCCINT /, L10 GND /, L11 GND /, L12 GND /, L13 GND /, L14 VCCINT /, L15 GND /, L16 VCCINT /, M4 GND /, M9 VCCINT /, M10 GND /, M11 GND /, M12 GND /, M13 GND /, M14 VCCINT /, N7 GND /, N8 GND /, N9 VCCINT /, N10 GND /, N11 GND /, N12 GND /, N13 GND /, N14 VCCINT /, N16 GND /, N19 GND /, P8 GND /, P9 GND /, P10 VCCINT /, P11 VCCINT /, P12 VCCINT /, P13 VCCINT /, P14 VCCINT /, R3 GND /, R9 GND /, R10 VCCINT /, R12 VCCINT /, R13 GND /, T10 GND /, T12 VCCINT /, T13 GND /, T15 VCCINT /, T17 GND_PLL4 / B6, T20 GND /, U5 GND_PLL1 / B1, U6 VCCD_PLL1 / B1, U7 VCCA_PLL1 / B8, U16 VCCA_PLL4 / B7, U17 VCCD_PLL4 / B6, V3 GND /, V5 GND_PLL1 / B1, V6 GND /, V7 GNDA_PLL1 / B8, V16 GNDA_PLL4 / B7, V17 GND /, W10 GND /, W13 GND /, W19 GND /, Y8 GND /, Y15 GND /

## EPCS1
designator U?
ALTERA CONFIGURATOR EPCS4; Manufacturer Part Number: EPCS1SI8N; Memory Size: 1Mb; Programmable Type: In System Programmable; Voltage - Supply: 3 V ~ 3.6 V; Description: IC CONFIG DEVICE 1MBIT 8-SOIC; Supplier 1: Digi-Key; Supplier Part Number 1: 544-1242-5-ND; RoHS: RoHS Compliant; Packaging: Tube; Supplier: Digi-Key; Operating Temperature: -40°C ~ 85°C; Supplier Part Number: 544-1242-5-ND; Category: Integrated Circuits (ICs); Manufacturer: Altera; Package / Case: 8-SOIC (3.9mm Width)
footprint SO8
pins: 1 NCS, 2 DATA, 3 VCC, 4 GND, 5 ASDI, 6 DCLK, 7 VCC, 8 VCC

## EPCS4
designator U?
ALTERA CONFIGURATOR EPCS4; Manufacturer Part Number: EPCS4SI8; Programmable Type: In System Programmable; Description: IC CONFIG DEVICE 4MBIT 8-SOIC; Voltage - Supply: 3 V ~ 3.6 V; Memory Size: 4Mb; Supplier 1: Digi-Key; Supplier Part Number 1: 544-1243-5-ND; Operating Temperature: -40°C ~ 85°C; Supplier: Digi-Key; RoHS: RoHS non-compliant; Category: Integrated Circuits (ICs); Supplier Part Number: 544-1243-5-ND; Package / Case: 8-SOIC (3.9mm Width); Packaging: Tube; Manufacturer: Altera
footprint SO8
pins: 1 NCS, 2 DATA, 3 VCC, 4 GND, 5 ASDI, 6 DCLK, 7 VCC, 8 VCC

## EPM570-TQFP100
designator U?, comment EPM570
ALTERA EPLD; Manufacturer Part Number: EPM570T100C5N; Number of Logic Blocks/Elements: 570; Number of I /O: 76; Memory Type: FLASH; Description: IC MAX II CPLD 570 LE 100-TQFP; Number of Macrocells: 440; Programmable Type: In System Programmable; Voltage: 2.5V, 3.3V; Delay Time tpd(1) Max: 5.4nS; Supplier 1: Digi-Key; Supplier Part Number 1: 544-1317-ND; Packaging: Tray; Package / Case: 100-TQFP, 100-VQFP; Operating Temperature: 0°C ~ 85°C; Supplier Part Number: 544-1317-ND; Features: -; Supplier: Digi-Key; Category: Integrated Circuits (ICs); RoHS: RoHS Compliant; Manufacturer: Altera
footprint tqfp100
pins: 1 IO, 2 IO, 3 IO, 4 IO, 5 IO, 6 IO, 7 IO, 8 IO, 9 VCCIO, 10 GND, 11 GND, 12 CLK0, 13 VCC, 14 CLK1, 15 IO, 16 IO, 17 IO, 18 IO, 19 IO, 20 IO, 21 IO, 22 TMS, 23 TDI, 24 TCK, 25 TDO, 26 IO, 27 IO, 28 IO, 29 IO, 30 IO, 31 VCCIO, 32 GND, 33 IO, 34 IO, 35 IO, 36 IO, 37 GND, 38 IO, 39 VCC, 40 IO, 41 IO, 42 IO, 43 OE, 44 CLR, 45 VCCIO, 46 GND, 47 IO, 48 IO, 49 IO, 50 IO, 51 IO, 52 IO, 53 IO, 54 IO, 55 IO, 56 IO, 57 IO, 58 IO, 59 VCCIO, 60 GND, 61 IO, 62 CLK2, 63 VCC, 64 CLK3, 65 GND, 66 IO, 67 IO, 68 IO, 69 IO, 70 IO, 71 IO, 72 IO, 73 IO, 74 IO, 75 IO, 76 IO, 77 IO, 78 IO, 79 GND, 80 VCCIO, 81 IO, 82 IO, 83 IO, 84 IO, 85 IO, 86 IO, 87 IO, 88 VCC, 89 IO, 90 GND, 91 IO, 92 IO, 93 GND, 94 VCCIO, 95 IO, 96 IO, 97 IO, 98 IO, 99 IO, 100 IO

## EPM570-TQFP144
designator U?, comment EPM570
ALTERA EPLD; Manufacturer Part Number: EPM570T144C5N; Number of Logic Blocks/Elements: 570; Programmable Type: In System Programmable; Description: IC MAX II CPLD 570 LE 144-TQFP; Delay Time tpd(1) Max: 5.4nS; Voltage: 2.5V, 3.3V; Number of I /O: 116; Memory Type: FLASH; Number of Macrocells: 440; Supplier 1: Digi-Key; Supplier Part Number 1: 544-1320-ND; Operating Temperature: 0°C ~ 85°C; Packaging: Tray; Package / Case: 144-TQFP, 144-VQFP; RoHS: RoHS Compliant; Supplier: Digi-Key; Features: -; Supplier Part Number: 544-1320-ND; Manufacturer: Altera; Category: Integrated Circuits (ICs)
footprint TQFP144
pins: 1, 2, 3, 4, 5, 6, 7, 8, 9 VCCIO1, 10 GNDIO1, 11, 12, 13, 14, 15, 16, 17 GND, 18 GCLK1, 19 VCC, 20 GCLK2, 21, 22, 23, 24, 25 VCCIO1, 26 GNDIO1, 27, 28, 29, 30, 31, 32, 33 M, 34 I, 35 K, 36 O, 37, 38, 39, 40, 41, 42, 43, 44, 45, 46 VCCIO2, 47 GNDIO2, 48, 49, 50, 51, 52, 53, 54 GND, 55, 56 VCC, 57, 58, 59, 60 E, 61 C, 62, 63, 64 VCCIO2, 65 GNDIO2, 66, 67, 68, 69, 70, 71, 72, 73, 74, 75, 76, 77, 78, 79, 80, 81, 82 VCCIO3, 83 GNDIO3, 84, 85, 86, 87, 88, 89 GCLK3, 90 VCC, 91 GCLK4, 92 GND, 93, 94, 95, 96, 97, 98, 99 GNDIO3, 100 VCCIO3, 101, 102, 103, 104, 105, 106, 107, 108, 109, 110, 111, 112, 113, 114, 115 GNDIO4, 116 VCCIO4, 117, 118, 119, 120, 121, 122, 123, 124, 125, 126 VCC, 127, 128 GND, 129, 130, 131, 132, 133, 134, 135 GNDIO4, 136 VCCIO4, 137, 138, 139, 140, 141, 142, 143, 144
text: 570 - BANK2; 1270 - BANK4; 570 - BANK1; 1270 - BANK1; 1270 - BANK3; 1270 - BANK2

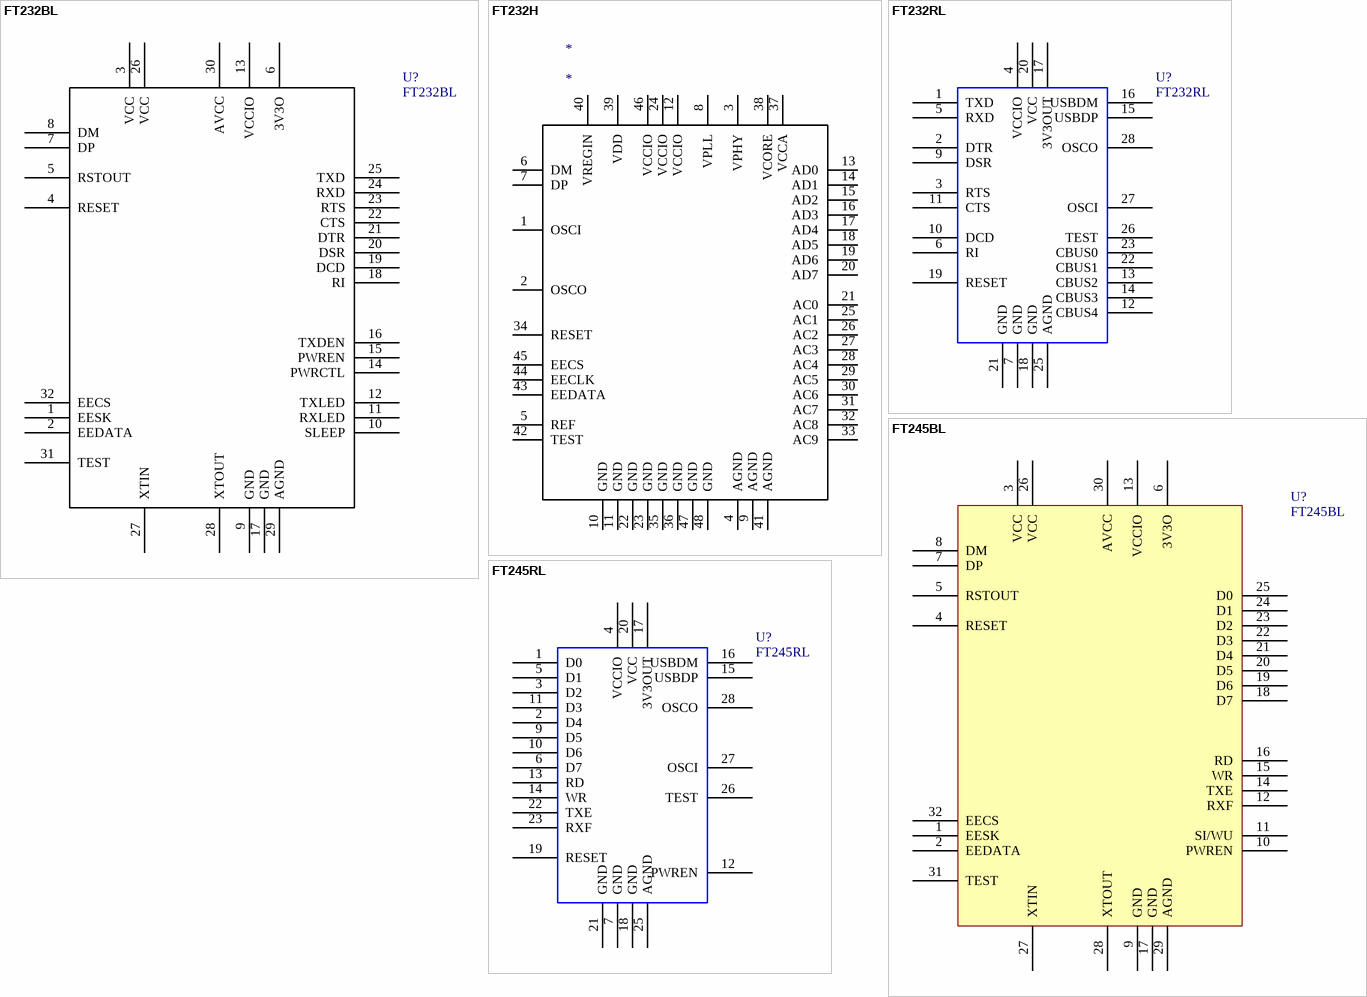
[diagram p7: symbols FT232BL to FT245RL]

## FT232BL
designator U?
USB TO UART INTERFACE; Manufacturer Part Number: FT232BL R; Manufacturer: FTDI, Future Technology Devices International Ltd; Voltage: 4.35 V ~ 5.25 V; FIFO's: 256 Byte; Description: IC USB TO SERIAL UART 32-LQFP; Number of Channels: 8; Supplier 1: Digi-Key; Supplier Part Number 1: 768-1009-1-ND; Supplier: Digi-Key; Features: Serial Interface; Packaging: Cut Tape (CT); Package / Case: 32-LQFP; Supplier Part Number: 768-1009-1-ND; Category: Integrated Circuits (ICs); RoHS: RoHS Compliant
footprint qfp32
pins: 1 EESK, 2 EEDATA, 3 VCC, 4 RESET, 5 RSTOUT, 6 3V3O, 7 DP, 8 DM, 9 GND, 10 SLEEP, 11 RXLED, 12 TXLED, 13 VCCIO, 14 PWRCTL, 15 PWREN, 16 TXDEN, 17 GND, 18 RI, 19 DCD, 20 DSR, 21 DTR, 22 CTS, 23 RTS, 24 RXD, 25 TXD, 26 VCC, 27 XTIN, 28 XTOUT, 29 AGND, 30 AVCC, 31 TEST, 32 EECS

## FT232H
designator *
pins: 1 OSCI, 2 OSCO, 3 VPHY, 4 AGND, 5 REF, 6 DM, 7 DP, 8 VPLL, 9 AGND, 10 GND, 11 GND, 12 VCCIO, 13 AD0, 14 AD1, 15 AD2, 16 AD3, 17 AD4, 18 AD5, 19 AD6, 20 AD7, 21 AC0, 22 GND, 23 GND, 24 VCCIO, 25 AC1, 26 AC2, 27 AC3, 28 AC4, 29 AC5, 30 AC6, 31 AC7, 32 AC8, 33 AC9, 34 RESET, 35 GND, 36 GND, 37 VCCA, 38 VCORE, 39 VDD, 40 VREGIN, 41 AGND, 42 TEST, 43 EEDATA, 44 EECLK, 45 EECS, 46 VCCIO, 47 GND, 48 GND

## FT232RL
designator U?
USB TO UART INTERFACE; Manufacturer: FTDI, Future Technology Devices International Ltd; Manufacturer Part Number: FT232RL R; Number of Channels: 8; Description: IC USB TO SERIAL UART 28-SSOP; Voltage: 3.3 V ~ 5.25 V; FIFO's: 256 Byte; Supplier 1: Digi-Key; Supplier Part Number 1: 768-1007-2-ND; RoHS: RoHS Compliant; Features: Serial Interface; Package / Case: 28-SSOP; Supplier: Digi-Key; Packaging: Tape & Reel (TR); Supplier Part Number: 768-1007-2-ND; Category: Integrated Circuits (ICs)
footprint TSSOP28
pins: 1 TXD, 2 DTR, 3 RTS, 4 VCCIO, 5 RXD, 6 RI, 7 GND, 9 DSR, 10 DCD, 11 CTS, 12 CBUS4, 13 CBUS2, 14 CBUS3, 15 USBDP, 16 USBDM, 17 3V3OUT, 18 GND, 19 RESET, 20 VCC, 21 GND, 22 CBUS1, 23 CBUS0, 25 AGND, 26 TEST, 27 OSCI, 28 OSCO

## FT245BL
designator U?
USB TO FIFO INTERFACE
footprint qfp32
pins: 1 EESK, 2 EEDATA, 3 VCC, 4 RESET, 5 RSTOUT, 6 3V3O, 7 DP, 8 DM, 9 GND, 10 PWREN, 11 SI/WU, 12 RXF, 13 VCCIO, 14 TXE, 15 WR, 16 RD, 17 GND, 18 D7, 19 D6, 20 D5, 21 D4, 22 D3, 23 D2, 24 D1, 25 D0, 26 VCC, 27 XTIN, 28 XTOUT, 29 AGND, 30 AVCC, 31 TEST, 32 EECS

## FT245RL
designator U?
USB TO FIFO INTERFACE; Manufacturer: FTDI, Future Technology Devices International Ltd; Manufacturer Part Number: FT245RL R; Description: IC USB TO PARALLEL FIFO 28-SSOP; Voltage - Supply: 1.8 V ~ 5.25 V; Supplier 1: Digi-Key; Supplier Part Number 1: 768-1011-2-ND; Category: Integrated Circuits (ICs); Supplier Part Number: 768-1011-2-ND; Applications: USB; Packaging: Tape & Reel (TR); Package / Case: 28-SSOP; Supplier: Digi-Key; RoHS: RoHS Compliant; Interface: USB
footprint TSSOP28
pins: 1 D0, 2 D4, 3 D2, 4 VCCIO, 5 D1, 6 D7, 7 GND, 9 D5, 10 D6, 11 D3, 12 PWREN, 13 RD, 14 WR, 15 USBDP, 16 USBDM, 17 3V3OUT, 18 GND, 19 RESET, 20 VCC, 21 GND, 22 TXE, 23 RXF, 25 AGND, 26 TEST, 27 OSCI, 28 OSCO

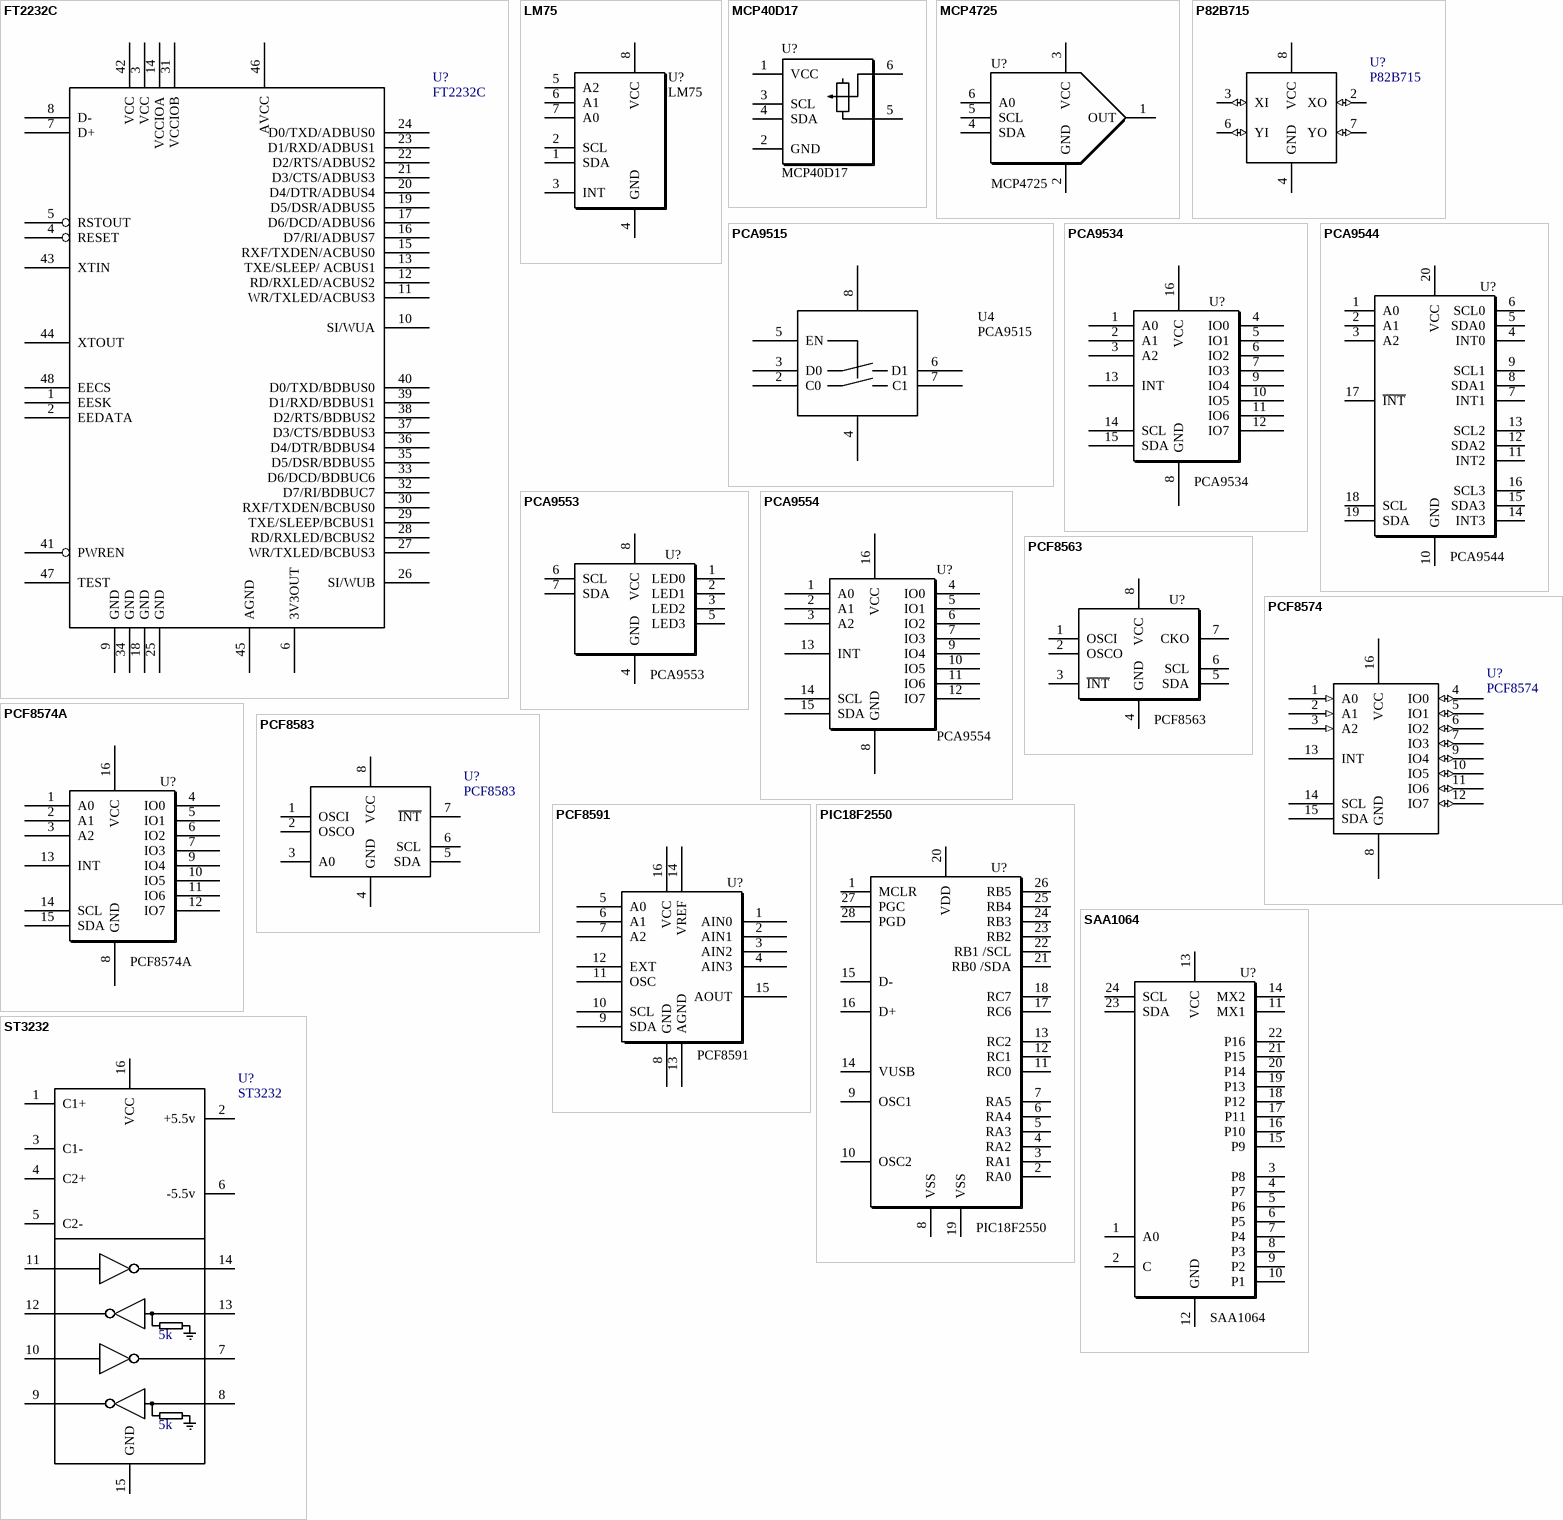
[diagram p8: symbols FT2232C to ST3232]

## FT2232C
designator U?
FT2232X DUAL PORT USB IO PORT; Manufacturer: FTDI, Future Technology Devices International Ltd; Manufacturer Part Number: FT2232D R; FIFO's: 256 Byte; Voltage: 3.0 V ~ 5.25 V; Description: IC USB UART/FIFO DUAL 48-LQFP; Number of Channels: 2; Supplier 1: Digi-Key; Supplier Part Number 1: 768-1010-6-ND; Packaging: Digi-Reel®; RoHS: RoHS Compliant; Package / Case: 48-LQFP; Supplier Part Number: 768-1010-6-ND; Category: Integrated Circuits (ICs); Features: Serial Interface; Supplier: Digi-Key
footprint tqfp48
pins: 1 EESK, 2 EEDATA, 3 VCC, 4 RESET, 5 RSTOUT, 6 3V3OUT, 7 D+, 8 D-, 9 GND, 10 SI/WUA, 11 WR/TXLED/ACBUS3, 12 RD/RXLED/ACBUS2, 13 TXE/SLEEP/ ACBUS1, 14 VCCIOA, 15 RXF/TXDEN/ACBUS0, 16 D7/RI/ADBUS7, 17 D6/DCD/ADBUS6, 18 GND, 19 D5/DSR/ADBUS5, 20 D4/DTR/ADBUS4, 21 D3/CTS/ADBUS3, 22 D2/RTS/ADBUS2, 23 D1/RXD/ADBUS1, 24 D0/TXD/ADBUS0, 25 GND, 26 SI/WUB, 27 WR/TXLED/BCBUS3, 28 RD/RXLED/BCBUS2, 29 TXE/SLEEP/BCBUS1, 30 RXF/TXDEN/BCBUS0, 31 VCCIOB, 32 D7/RI/BDBUC7, 33 D6/DCD/BDBUC6, 34 GND, 35 D5/DSR/BDBUS5, 36 D4/DTR/BDBUS4, 37 D3/CTS/BDBUS3, 38 D2/RTS/BDBUS2, 39 D1/RXD/BDBUS1, 40 D0/TXD/BDBUS0, 41 PWREN, 42 VCC, 43 XTIN, 44 XTOUT, 45 AGND, 46 AVCC, 47 TEST, 48 EECS

## LM75
designator U?
footprint SO8
pins: 1 SDA, 2 SCL, 3 INT, 4 GND, 5 A2, 6 A1, 7 A0, 8 VCC

## MCP40D17
designator U?
footprint SC70-6
pins: 1 VCC, 2 GND, 3 SCL, 4 SDA, 5 B, 6 W

## MCP4725
designator U?
12 BIT DAC WITH I2C INTERFACE
footprint SOT23-6
pins: 1 OUT, 2 GND, 3 VCC, 4 SDA, 5 SCL, 6 A0

## P82B715
designator U?
I2C BUS EXTENDER; Manufacturer: NXP Semiconductors; Manufacturer Part Number: P82B715TD,112; Voltage - Supply: 4.5 V ~ 12 V; Current - Supply: 22mA; Tx/Rx Type: I²C Logic; Delay Time: 250ns; Description: IC I2C BUS EXTENDER 8-SOIC; Capacitance - Input: 3000pF; Supplier 1: Digi-Key; Supplier Part Number 1: 568-3981-5-ND; RoHS: RoHS Compliant; Package / Case: 8-SOIC (3.9mm Width); Packaging: Tube; Supplier: Digi-Key; Supplier Part Number: 568-3981-5-ND; Type: Bus Extender; Category: Integrated Circuits (ICs)
footprint SO8
pins: 2 XO (io), 3 XI (io), 4 GND (power), 6 YI (io), 7 YO (io), 8 VCC (power)

## PCA9515
designator U4
I2 BUS ISOLATOR; Supplier 1: Digi-Key; Supplier Part Number 1: 568-1031-6-ND
footprint SO8
pins: 2 C0, 3 D0, 4 GND, 5 EN, 6 D1, 7 C1, 8 VCC

## PCA9534
designator U?
OCTAL PUSH PULL DRIVER I2C
footprint DIP16
footprint SO16
footprint SO16W
pins: 1 A0, 2 A1, 3 A2, 4 IO0, 5 IO1, 6 IO2, 7 IO3, 8 GND, 9 IO4, 10 IO5, 11 IO6, 12 IO7, 13 INT, 14 SCL, 15 SDA, 16 VCC

## PCA9544
designator U?
footprint SO20W
pins: 1 A0, 2 A1, 3 A2, 4 INT0, 5 SDA0, 6 SCL0, 7 INT1, 8 SDA1, 9 SCL1, 10 GND, 11 INT2, 12 SDA2, 13 SCL2, 14 INT3, 15 SDA3, 16 SCL3, 17 ~{INT}, 18 SCL, 19 SDA, 20 VCC

## PCA9553
designator U?
footprint SO8
pins: 1 LED0, 2 LED1, 3 LED2, 4 GND, 5 LED3, 6 SCL, 7 SDA, 8 VCC

## PCA9554
designator U?
IO EXPANDER PUSH PULL WEAK PULLUP
footprint DIP16
footprint SO16W
pins: 1 A0, 2 A1, 3 A2, 4 IO0, 5 IO1, 6 IO2, 7 IO3, 8 GND, 9 IO4, 10 IO5, 11 IO6, 12 IO7, 13 INT, 14 SCL, 15 SDA, 16 VCC

## PCF8563
designator U?
REAL TIME CLOCK
footprint SO8
pins: 1 OSCI, 2 OSCO, 3 ~{INT}, 4 GND, 5 SDA, 6 SCL, 7 CKO, 8 VCC

## PCF8574
designator U?
I2C PORT EXPANDER; Manufacturer Part Number: PCF8574T/3,512; Manufacturer: NXP Semiconductors; Description: IC I/O EXPANDER I2C 8B 16SOIC; Includes: POR; Interface: I²C; Interrupt Output: Yes; Number of I /O: 8; Voltage - Supply: 2.5 V ~ 6 V; Frequency - Clock: 100KHz; Supplier 1: Digi-Key; Supplier Part Number 1: 568-1076-5-ND; Package / Case: 16-SOIC (7.5mm Width); Category: Integrated Circuits (ICs); Supplier Part Number: 568-1076-5-ND; Operating Temperature: -40°C ~ 85°C; Packaging: Tube; RoHS: RoHS Compliant; Supplier: Digi-Key
footprint SO16w
pins: 1 A0 (in), 2 A1 (in), 3 A2 (in), 4 IO0 (io), 5 IO1 (io), 6 IO2 (io), 7 IO3 (io), 8 GND (oc), 9 IO4 (io), 10 IO5 (io), 11 IO6 (io), 12 IO7 (io), 13 INT (oc), 14 SCL (oc), 15 SDA (oc), 16 VCC

## PCF8574A
designator U?
footprint DIP16
footprint SO16
footprint SO16W
pins: 1 A0, 2 A1, 3 A2, 4 IO0, 5 IO1, 6 IO2, 7 IO3, 8 GND, 9 IO4, 10 IO5, 11 IO6, 12 IO7, 13 INT, 14 SCL, 15 SDA, 16 VCC

## PCF8583
designator U?
I2C REAL TIME CLOCK; Manufacturer Part Number: PCF8583T/5,518; Manufacturer: NXP Semiconductors; Time Format: HH:MM:SS (12/24 hr); Description: IC CLK/CALENDAR 240X8 RAM 8-SOIC; Memory Size: 240B; Voltage - Supply: 1 V ~ 6 V; Date Format: YY-MM-DD; Interface: I²C, 2-Wire Serial; Supplier 1: Digi-Key; Supplier Part Number 1: 568-1085-2-ND; Supplier: Digi-Key; Supplier Part Number: 568-1085-2-ND; Operating Temperature: -40°C ~ 85°C; Packaging: Tape & Reel (TR); Type: Clock/Calendar/NVSRAM; Package / Case: 8-SOIC (7.5mm Width); Category: Integrated Circuits (ICs); RoHS: RoHS Compliant
footprint SO8
pins: 1 OSCI, 2 OSCO, 3 A0, 4 GND, 5 SDA, 6 SCL, 7 ~{INT}, 8 VCC

## PCF8591
designator U?
I2C A/D/DA CONVERTOR
footprint DIP16
footprint SO16
footprint SO16W
pins: 1 AIN0, 2 AIN1, 3 AIN2, 4 AIN3, 5 A0, 6 A1, 7 A2, 8 GND, 9 SDA, 10 SCL, 11 OSC, 12 EXT, 13 AGND, 14 VREF, 15 AOUT, 16 VCC

## PIC18F2550
designator U?
footprint SO28W
pins: 1 MCLR, 2 RA0, 3 RA1, 4 RA2, 5 RA3, 6 RA4, 7 RA5, 8 VSS, 9 OSC1, 10 OSC2, 11 RC0, 12 RC1, 13 RC2, 14 VUSB, 15 D-, 16 D+, 17 RC6, 18 RC7, 19 VSS, 20 VDD, 21 RB0 /SDA, 22 RB1 /SCL, 23 RB2, 24 RB3, 25 RB4, 26 RB5, 27 PGC, 28 PGD

## SAA1064
designator U?
footprint SO24W
pins: 1 A0, 2 C, 3 P8, 4 P7, 5 P6, 6 P5, 7 P4, 8 P3, 9 P2, 10 P1, 11 MX1, 12 GND, 13 VCC, 14 MX2, 15 P9, 16 P10, 17 P11, 18 P12, 19 P13, 20 P14, 21 P15, 22 P16, 23 SDA, 24 SCL

## ST3232
designator U?
IC, RS-232 Transceiver, SO-16; Manufacturer Part Number: ST3232EBDR; Manufacturer: STMicroelectronics; Protocol: RS232; Description: IC DVR/RCVR 5.5V RS232 SOIC-16; Number of Drivers/Receivers: 2/2; Voltage - Supply: 3 V ~ 5.5 V; NI?: *; O?: *; Section:: *; Supplier 1: Digi-Key; Supplier Part Number 1: 497-6996-2-ND; Packaging: Tape & Reel (TR); Package / Case: 16-SOIC (3.9mm Width); Supplier: Digi-Key; Category: Integrated Circuits (ICs); Type: Transceiver; RoHS: RoHS Compliant; Supplier Part Number: 497-6996-2-ND
footprint SO16
pins: 1 C1+, 2 +5.5v, 3 C1-, 4 C2+, 5 C2-, 6 -5.5v, 7, 8, 9, 10, 11, 12, 13, 14, 15 GND, 16 VCC
text: 5k

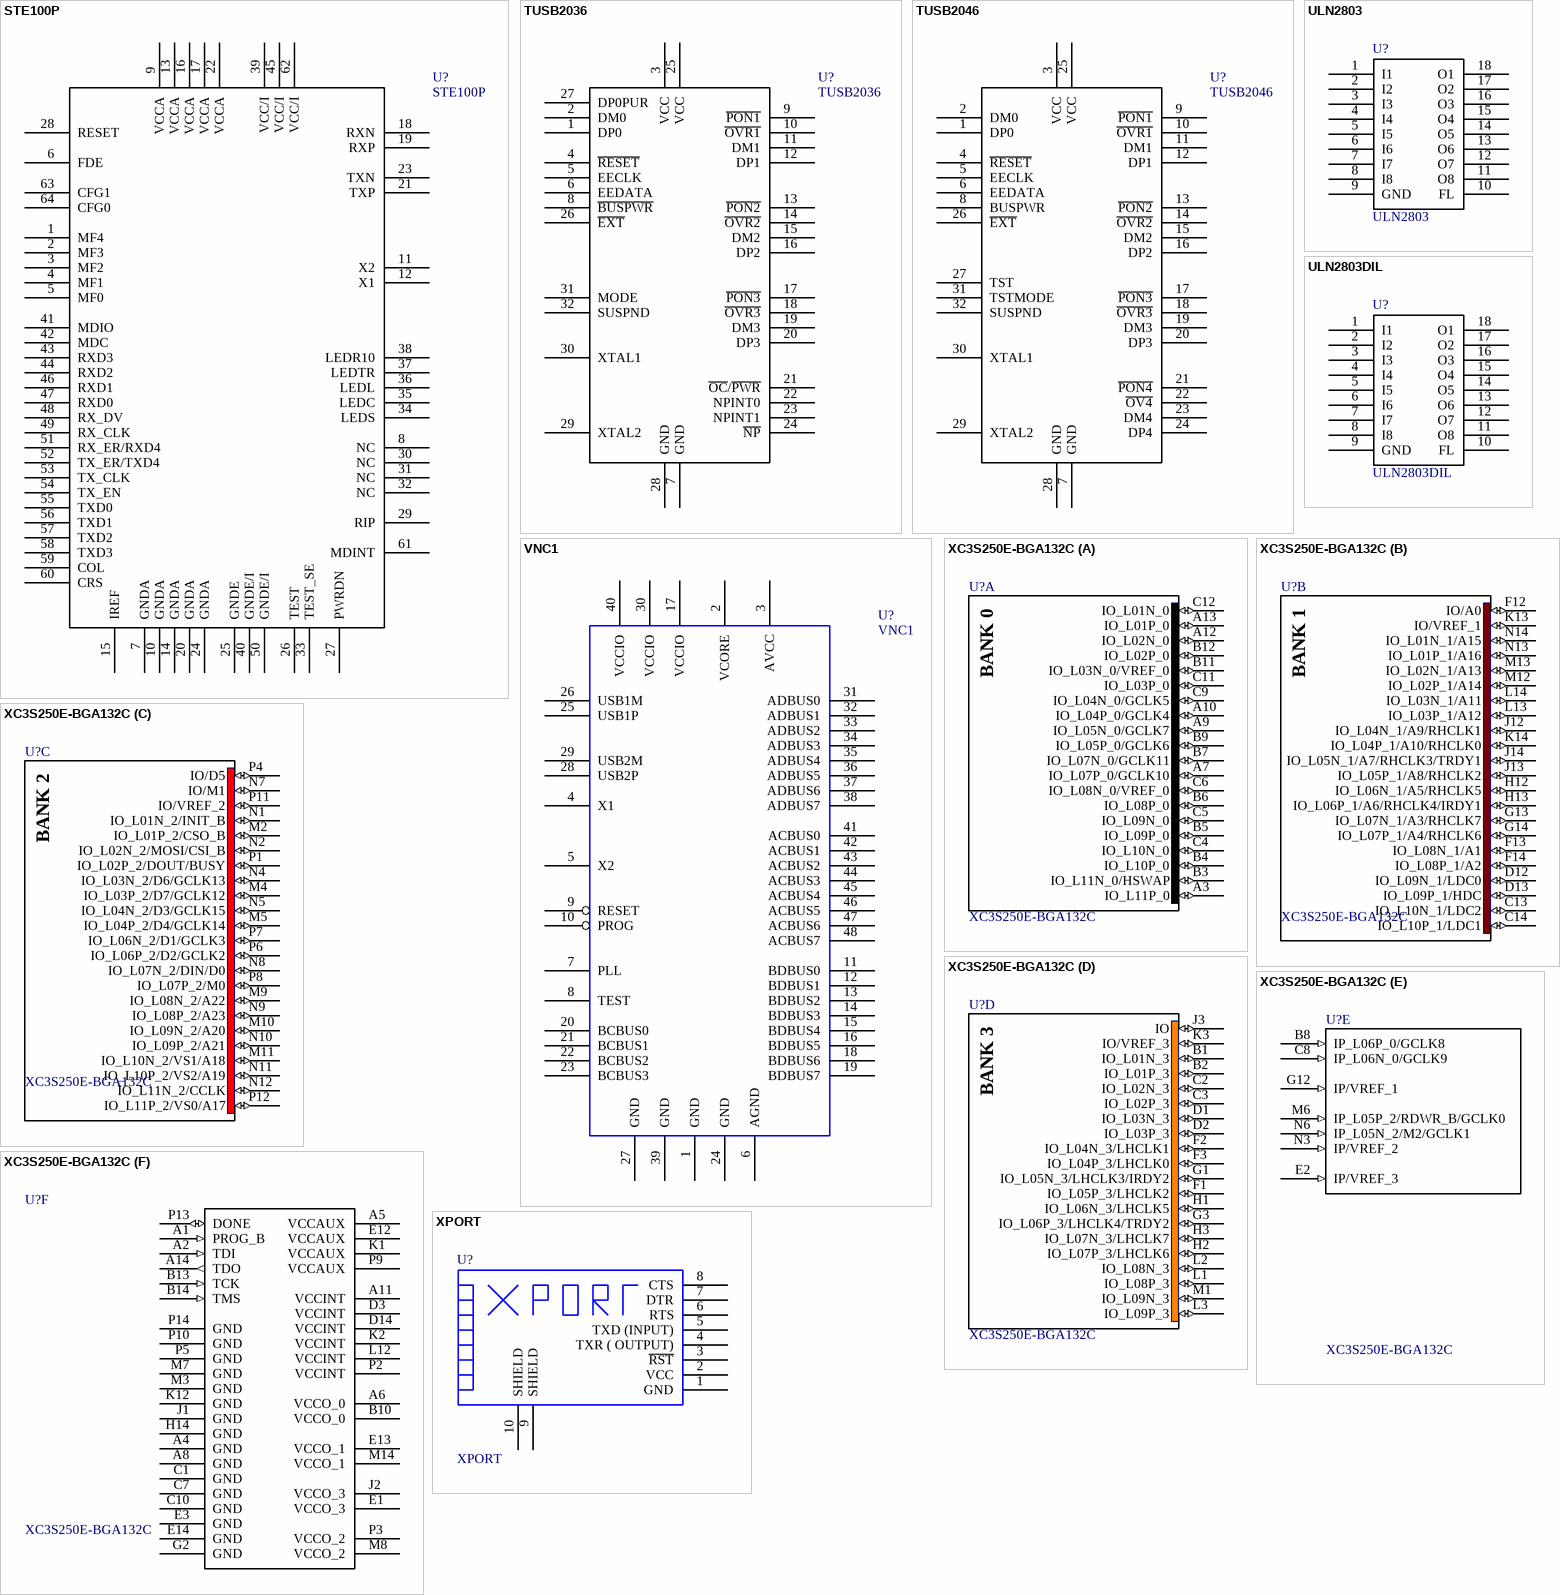
[diagram p9: symbols STE100P to XPORT]

## STE100P
designator U?
ETHERNET PHY; Manufacturer Part Number: STE100STR; Manufacturer: STMicroelectronics; Description: IC ETHERNET PHY FAST HP 64-TQFP; Number of Drivers/Receivers: 1/1; Voltage - Supply: 3.15 V ~ 3.45 V; Protocol: IEEE 802; Supplier 1: Digi-Key; Supplier Part Number 1: STE100STR-ND; Package / Case: 64-TQFP, 64-VQFP; Packaging: Tape & Reel (TR); RoHS: RoHS Compliant; Category: Integrated Circuits (ICs); Supplier: Digi-Key; Type: Transceiver; Supplier Part Number: STE100STR-ND
footprint TQFP64L
pins: 1 MF4, 2 MF3, 3 MF2, 4 MF1, 5 MF0, 6 FDE, 7 GNDA, 8 NC, 9 VCCA, 10 GNDA, 11 X2, 12 X1, 13 VCCA, 14 GNDA, 15 IREF, 16 VCCA, 17 VCCA, 18 RXN, 19 RXP, 20 GNDA, 21 TXP, 22 VCCA, 23 TXN, 24 GNDA, 25 GNDE, 26 TEST, 27 PWRDN, 28 RESET, 29 RIP, 30 NC, 31 NC, 32 NC, 33 TEST_SE, 34 LEDS, 35 LEDC, 36 LEDL, 37 LEDTR, 38 LEDR10, 39 VCC/I, 40 GNDE/I, 41 MDIO, 42 MDC, 43 RXD3, 44 RXD2, 45 VCC/I, 46 RXD1, 47 RXD0, 48 RX_DV, 49 RX_CLK, 50 GNDE/I, 51 RX_ER/RXD4, 52 TX_ER/TXD4, 53 TX_CLK, 54 TX_EN, 55 TXD0, 56 TXD1, 57 TXD2, 58 TXD3, 59 COL, 60 CRS, 61 MDINT, 62 VCC/I, 63 CFG1, 64 CFG0

## TUSB2036
designator U?
4 PORT USB HUB STATE MACHINE; Manufacturer Part Number: TUSB2036VFG4; Manufacturer: Texas Instruments; Description: IC 2/3-PORT USB HUB 32-LQFP; Current - Supply: 40mA; Interface: Serial EEPROM; Controller Type: USB Hub; Voltage - Supply: 3 V ~ 3.6 V; Supplier 1: Digi-Key; Supplier Part Number 1: 296-17784-ND; Supplier Part Number: 296-17784-ND; RoHS: RoHS Compliant; Supplier: Digi-Key; Package / Case: 32-LQFP; Operating Temperature: 0°C ~ 70°C; Category: Integrated Circuits (ICs); Packaging: Tray
footprint QFP32
pins: 1 DP0, 2 DM0, 3 VCC, 4 ~{RESET}, 5 EECLK, 6 EEDATA, 7 GND, 8 ~{BUSPWR}, 9 ~{PON1}, 10 ~{OVR1}, 11 DM1, 12 DP1, 13 ~{PON2}, 14 ~{OVR2}, 15 DM2, 16 DP2, 17 ~{PON3}, 18 ~{OVR3}, 19 DM3, 20 DP3, 21 ~{OC}/~{PWR}, 22 NPINT0, 23 NPINT1, 24 ~{NP}, 25 VCC, 26 ~{EXT}, 27 DP0PUR, 28 GND, 29 XTAL2, 30 XTAL1, 31 MODE, 32 SUSPND

## TUSB2046
designator U?
4 PORT USB HUB STATE MACHINE; Manufacturer Part Number: TUSB2046BVF; Manufacturer: Texas Instruments; Voltage - Supply: 3 V ~ 3.6 V; Description: IC 4-PORT USB HUB 32-LQFP; Controller Type: USB Hub; Interface: Serial EEPROM; Current - Supply: 40mA; Supplier 1: Digi-Key; Supplier Part Number 1: 296-11088-ND; Packaging: Tray; Operating Temperature: 0°C ~ 70°C; Package / Case: 32-LQFP; Supplier Part Number: 296-11088-ND; RoHS: RoHS Compliant; Supplier: Digi-Key; Category: Integrated Circuits (ICs)
footprint QFP32
pins: 1 DP0, 2 DM0, 3 VCC, 4 ~{RESET}, 5 EECLK, 6 EEDATA, 7 GND, 8 BUSPWR, 9 ~{PON1}, 10 ~{OVR1}, 11 DM1, 12 DP1, 13 ~{PON2}, 14 ~{OVR2}, 15 DM2, 16 DP2, 17 ~{PON3}, 18 ~{OVR3}, 19 DM3, 20 DP3, 21 ~{PON4}, 22 ~{OV}~{4}, 23 DM4, 24 DP4, 25 VCC, 26 ~{EXT}, 27 TST, 28 GND, 29 XTAL2, 30 XTAL1, 31 TSTMODE, 32 SUSPND

## ULN2803
designator U?
OCTAL HIGH CURRENT DRIVER; Manufacturer: Texas Instruments; Manufacturer Part Number: ULN2803ADWR; Number of Drivers/Receivers: 8/0; Description: IC DARL TRANS ARRAY HV 18-SOIC; Voltage - Supply: 5V; Supplier 1: Digi-Key; Supplier Part Number 1: 296-15777-1-ND; Packaging: Cut Tape (CT); Supplier Part Number: 296-15777-1-ND; Type: Darlington Array; Supplier: Digi-Key; Protocol: -; Package / Case: 18-SOIC (7.5mm Width); Category: Integrated Circuits (ICs); RoHS: RoHS Compliant
footprint SO18W
pins: 1 I1, 2 I2, 3 I3, 4 I4, 5 I5, 6 I6, 7 I7, 8 I8, 9 GND, 10 FL, 11 O8, 12 O7, 13 O6, 14 O5, 15 O4, 16 O3, 17 O2, 18 O1

## ULN2803DIL
designator U?
OCTAL HIGH CURRENT DRIVER; Manufacturer: Texas Instruments; Manufacturer Part Number: ULN2803ADWR; Number of Drivers/Receivers: 8/0; Description: IC DARL TRANS ARRAY HV 18-SOIC; Voltage - Supply: 5V; Supplier 1: Digi-Key; Supplier Part Number 1: 296-15777-1-ND; Packaging: Cut Tape (CT); Supplier Part Number: 296-15777-1-ND; Type: Darlington Array; Supplier: Digi-Key; Protocol: -; Package / Case: 18-SOIC (7.5mm Width); Category: Integrated Circuits (ICs); RoHS: RoHS Compliant
footprint DIP18
pins: 1 I1, 2 I2, 3 I3, 4 I4, 5 I5, 6 I6, 7 I7, 8 I8, 9 GND, 10 FL, 11 O8, 12 O7, 13 O6, 14 O5, 15 O4, 16 O3, 17 O2, 18 O1

## VNC1
designator U?
VINCULUM USB HOST CONTROLLER; Manufacturer Part Number: VNC1L-1A-REEL; Manufacturer: FTDI, Future Technology Devices International Ltd; Description: IC USB HOST CTLR VINCULUM 48LQFP; Current - Supply: 25mA; Interface: SPI; Voltage - Supply: 3 V ~ 3.6 V; Controller Type: USB 2.0 Controller; Supplier 1: Digi-Key; Supplier Part Number 1: 768-1000-2-ND; Supplier Part Number: 768-1000-2-ND; RoHS: RoHS Compliant; Supplier: Digi-Key; Category: Integrated Circuits (ICs); Operating Temperature: 0°C ~ 70°C; Packaging: Tape & Reel (TR); Package / Case: 48-LQFP
footprint TQFP48
pins: 1 GND, 2 VCORE, 3 AVCC, 4 X1, 5 X2, 6 AGND, 7 PLL, 8 TEST, 9 RESET, 10 PROG, 11 BDBUS0, 12 BDBUS1, 13 BDBUS2, 14 BDBUS3, 15 BDBUS4, 16 BDBUS5, 17 VCCIO, 18 BDBUS6, 19 BDBUS7, 20 BCBUS0, 21 BCBUS1, 22 BCBUS2, 23 BCBUS3, 24 GND, 25 USB1P, 26 USB1M, 27 GND, 28 USB2P, 29 USB2M, 30 VCCIO, 31 ADBUS0, 32 ADBUS1, 33 ADBUS2, 34 ADBUS3, 35 ADBUS4, 36 ADBUS5, 37 ADBUS6, 38 ADBUS7, 39 GND, 40 VCCIO, 41 ACBUS0, 42 ACBUS1, 43 ACBUS2, 44 ACBUS3, 45 ACBUS4, 46 ACBUS5, 47 ACBUS6, 48 ACBUS7

## XC3S250E-BGA132C
designator U?
Spartan-3E 1.2V FPGA, 92 User I/Os, 132-Ball Chip-Scale BGA, Standard Performance, Commercial Grade, Pb-Free; FirstPublished: 6-Jun-2005; LatestRevisionDate: 30-Oct-2009; LatestRevisionNote: Updated to datasheet version 3.8 Aug-2009.; DatasheetVersion: ver3.8, Aug-2009; PackageVersion: ver1.3, Jun-2008; PackageReference: CPG132; Publisher: Altium Limited; PackageDescription: 132-Ball Chip Scale Ball Grid Array 0.5 mm Pitch (CPG132) - Pb-Free; Supplier 1: Digi-Key; Supplier Part Number 1: 122-1518-ND; ComponentLink1Description: Spartan-3E Datasheet; ComponentLink1URL: http://www.xilinx.com/support/documentation/data_sheets/ds312.pdf; ComponentLink2Description: CPG132 Package Drawing; ComponentLink2URL: http://www.xilinx.com/support/documentation/package_specs/cp132.pdf; ComponentLink3Description: Spartan-3E Documents; ComponentLink3URL: http://www.xilinx.com/support/documentation/spartan-3e.htm; ComponentLink4Description: Xilinx.com Home; ComponentLink4URL: http://www.xilinx.com
footprint CPG132 (BGA, 132-Leads, Body 8x8mm, Pitch 0.5mm)
part A pins: A3 IO_L11P_0 (io), A7 IO_L07P_0/GCLK10 (io), A9 IO_L05N_0/GCLK7 (io), A10 IO_L04P_0/GCLK4 (io), A12 IO_L02N_0 (io), A13 IO_L01P_0 (io), B3 IO_L11N_0/HSWAP (io), B4 IO_L10P_0 (io), B5 IO_L09P_0 (io), B6 IO_L08P_0 (io), B7 IO_L07N_0/GCLK11 (io), B9 IO_L05P_0/GCLK6 (io), B11 IO_L03N_0/VREF_0 (io), B12 IO_L02P_0 (io), C4 IO_L10N_0 (io), C5 IO_L09N_0 (io), C6 IO_L08N_0/VREF_0 (io), C9 IO_L04N_0/GCLK5 (io), C11 IO_L03P_0 (io), C12 IO_L01N_0 (io)
part B pins: C13 IO_L10N_1/LDC2 (io), C14 IO_L10P_1/LDC1 (io), D12 IO_L09N_1/LDC0 (io), D13 IO_L09P_1/HDC (io), F12 IO/A0 (io), F13 IO_L08N_1/A1 (io), F14 IO_L08P_1/A2 (io), G13 IO_L07N_1/A3/RHCLK7 (io), G14 IO_L07P_1/A4/RHCLK6 (io), H12 IO_L06N_1/A5/RHCLK5 (io), H13 IO_L06P_1/A6/RHCLK4/IRDY1 (io), J12 IO_L04N_1/A9/RHCLK1 (io), J13 IO_L05P_1/A8/RHCLK2 (io), J14 IO_L05N_1/A7/RHCLK3/TRDY1 (io), K13 IO/VREF_1 (io), K14 IO_L04P_1/A10/RHCLK0 (io), L13 IO_L03P_1/A12 (io), L14 IO_L03N_1/A11 (io), M12 IO_L02P_1/A14 (io), M13 IO_L02N_1/A13 (io), N13 IO_L01P_1/A16 (io), N14 IO_L01N_1/A15 (io)
part C pins: M2 IO_L01P_2/CSO_B (io), M4 IO_L03P_2/D7/GCLK12 (io), M5 IO_L04P_2/D4/GCLK14 (io), M9 IO_L08N_2/A22 (io), M10 IO_L09N_2/A20 (io), M11 IO_L10N_2/VS1/A18 (io), N1 IO_L01N_2/INIT_B (io), N2 IO_L02N_2/MOSI/CSI_B (io), N4 IO_L03N_2/D6/GCLK13 (io), N5 IO_L04N_2/D3/GCLK15 (io), N7 IO/M1 (io), N8 IO_L07N_2/DIN/D0 (io), N9 IO_L08P_2/A23 (io), N10 IO_L09P_2/A21 (io), N11 IO_L10P_2/VS2/A19 (io), N12 IO_L11N_2/CCLK (io), P1 IO_L02P_2/DOUT/BUSY (io), P4 IO/D5 (io), P6 IO_L06P_2/D2/GCLK2 (io), P7 IO_L06N_2/D1/GCLK3 (io), P8 IO_L07P_2/M0 (io), P11 IO/VREF_2 (io), P12 IO_L11P_2/VS0/A17 (io)
part D pins: B1 IO_L01N_3 (io), B2 IO_L01P_3 (io), C2 IO_L02N_3 (io), C3 IO_L02P_3 (io), D1 IO_L03N_3 (io), D2 IO_L03P_3 (io), F1 IO_L05P_3/LHCLK2 (io), F2 IO_L04N_3/LHCLK1 (io), F3 IO_L04P_3/LHCLK0 (io), G1 IO_L05N_3/LHCLK3/IRDY2 (io), G3 IO_L06P_3/LHCLK4/TRDY2 (io), H1 IO_L06N_3/LHCLK5 (io), H2 IO_L07P_3/LHCLK6 (io), H3 IO_L07N_3/LHCLK7 (io), J3 IO (io), K3 IO/VREF_3 (io), L1 IO_L08P_3 (io), L2 IO_L08N_3 (io), L3 IO_L09P_3 (io), M1 IO_L09N_3 (io)
part E pins: B8 IP_L06P_0/GCLK8 (in), C8 IP_L06N_0/GCLK9 (in), E2 IP/VREF_3 (in), G12 IP/VREF_1 (in), M6 IP_L05P_2/RDWR_B/GCLK0 (in), N3 IP/VREF_2 (in), N6 IP_L05N_2/M2/GCLK1 (in)
part F pins: A1 PROG_B (in), A2 TDI (in), A4 GND (power), A5 VCCAUX (power), A6 VCCO_0 (power), A8 GND (power), A11 VCCINT (power), A14 TDO (out), B10 VCCO_0 (power), B13 TCK (in), B14 TMS (in), C1 GND (power), C7 GND (power), C10 GND (power), D3 VCCINT (power), D14 VCCINT (power), E1 VCCO_3 (power), E3 GND (power), E12 VCCAUX (power), E13 VCCO_1 (power), E14 GND (power), G2 GND (power), H14 GND (power), J1 GND (power), J2 VCCO_3 (power), K1 VCCAUX (power), K2 VCCINT (power), K12 GND (power), L12 VCCINT (power), M3 GND (power), M7 GND (power), M8 VCCO_2 (power), M14 VCCO_1 (power), P2 VCCINT (power), P3 VCCO_2 (power), P5 GND (power), P9 VCCAUX (power), P10 GND (power), P13 DONE (io), P14 GND (power)
part A text: BANK 0
part B text: BANK 1
part C text: BANK 2
part D text: BANK 3

## XPORT
designator U?
XPORT ETHERNET INTERFACE
footprint XPORT
pins: 1 GND, 2 VCC, 3 ~{RST}, 4 TXR ( OUTPUT), 5 TXD (INPUT), 6 RTS, 7 DTR, 8 CTS, 9 SHIELD, 10 SHIELD